# Altium integrated library Altera FLEX 10K.IntLib: 292 symbols (part 23 of 37)
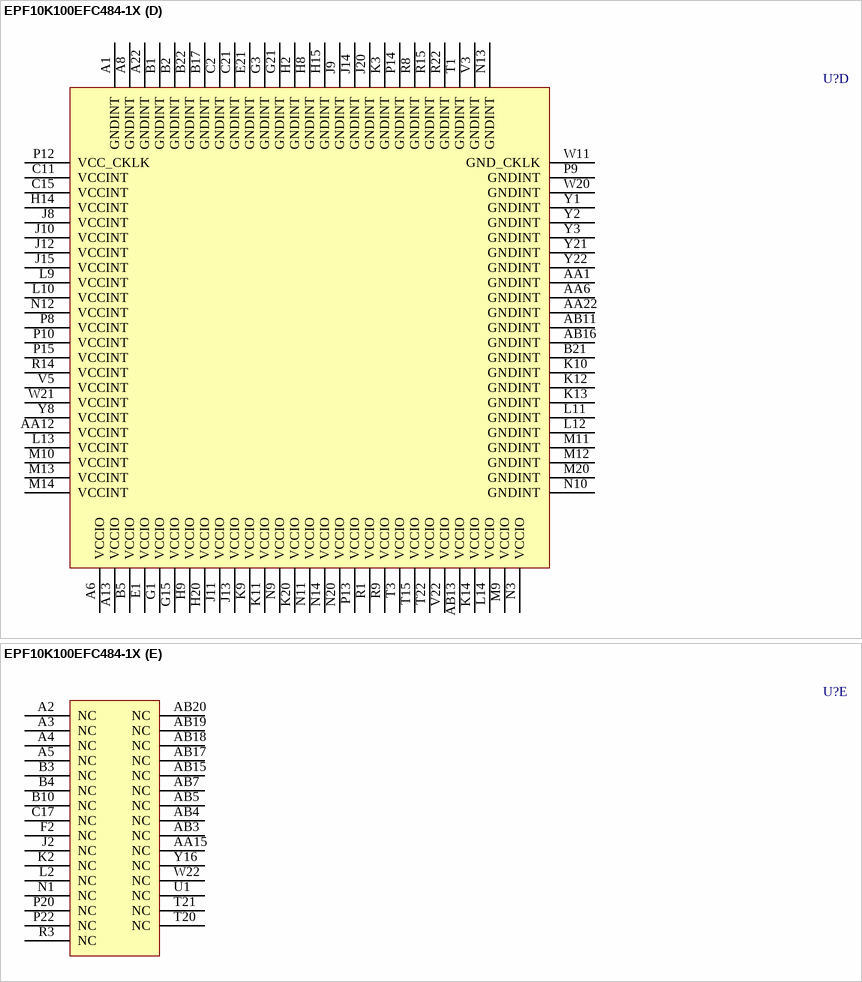
[diagram p420: symbol EPF10K100EFC484-1X]

## EPF10K100EFC484-1X
designator U?
FLEX EPF10K100E 2.5V Embedded PLD, 338 User IO Pins, 484-Pin FBGA, Speed Grade 1, Commercial Grade; Published: 17-Jul-2002; LatestRevisionDate: 13-Apr-2006; LatestRevisionNote: IPC-7351 Footprint Added.; DatasheetVersion: ver2.5, Jan-2003; PackageVersion: ver16.0, Dec-2009; PackageReference: FBGA484; Publisher: Altium Limited; PackageDescription: 484-Ball FineLine Ball Grid Array (FBGA484) - Flip Chip; Code_JEDEC: MS-034-AAJ-1; Code_IPC: BGA100P22X22-484; ComponentLink1Description: Manufacturer Link; ComponentLink1URL: http://www.altera.com/products/devices/flex10k/f10-index.html; ComponentLink2Description: Datasheet; ComponentLink2URL: http://www.altera.com/literature/ds/dsf10ke.pdf
footprint FBGA484 (BGA, 484-Leads, Body 23x23mm, Pitch 1mm)
3D model EPF10K100E-FBGA484 (484-Ball FineLine Ball Grid Array (FBGA484) - Flip Chip)
part A pins: A7 I/O (io), A9 I/O (io), A10 I/O (io), A11 I/O (io), A12 I/O (io), A14 I/O (io), A15 I/O (io), A16 I/O (io), A17 I/O (io), A18 I/O (io), A19 I/O (io), A20 I/O (io), A21 I/O (io), B6 I/O (io), B7 I/O (io), B8 I/O (io), B9 I/O (io), B11 I/O (io), B12 I/O (io), B13 I/O (io), B14 I/O (io), B15 I/O (io), B16 I/O (io), B18 I/O (io), B19 I/O (io), B20 I/O (io), C1 I/O (io), C3 I/O (io), C4 I/O (io), C5 I/O (io), C6 I/O (io), C7 I/O (io), C8 I/O (io), C9 I/O (io), C10 I/O (io), C12 I/O (io), C13 I/O (io), C14 I/O (io), C16 I/O (io), C18 I/O (io), C19 I/O (io), C20 I/O (io), C22 I/O (io), D1 I/O (io), D2 I/O (io), D3 I/O (io), D6 I/O (io), D8 I/O (io), D9 I/O (io), D10 I/O (io), D11 I/O (io), D13 I/O (io), D14 I/O (io), D15 I/O (io), D16 I/O (io), D17 I/O (io), D20 I/O (io), D21 I/O (io), D22 I/O (io), E2 I/O (io), E3 I/O (io), E9 I/O (io), E10 I/O (io), E11 I/O (io), E13 I/O (io), E14 I/O (io), E15 I/O (io), E16 I/O (io), E20 I/O (io), E22 I/O (io), F1 I/O (io), F3 I/O (io), F4 I/O (io), F7 I/O (io), F8 I/O (io), F9 I/O (io), F10 I/O (io), F11 I/O (io), F13 I/O (io), F14 I/O (io), F15 I/O (io), F16 I/O (io), F20 I/O (io), F21 I/O (io), F22 I/O (io), G2 I/O (io), G4 I/O (io), G5 I/O (io), G6 I/O (io), G8 I/O (io), G9 I/O (io), G10 I/O (io), G12 I/O (io), G13 I/O (io), G14 I/O (io), G16 I/O (io), G17 I/O (io), G19 I/O (io), G20 I/O (io), G22 I/O (io), H1 I/O (io), H3 I/O (io), H4 I/O (io), H5 I/O (io), H6 I/O (io), H7 I/O (io), H10 I/O (io), H12 I/O (io), H13 I/O (io), H16 I/O (io), H17 I/O (io), H18 I/O (io), H19 I/O (io), H21 I/O (io), H22 I/O (io), J1 I/O (io), J3 I/O (io), J4 I/O (io), J5 I/O (io), J6 I/O (io), J7 I/O (io), J16 I/O (io), J17 I/O (io), J18 I/O (io), J19 I/O (io), J21 I/O (io), J22 I/O (io), K1 I/O (io), K4 I/O (io), K5 I/O (io), K6 I/O (io), K7 I/O (io), K8 I/O (io), K15 I/O (io), K16 I/O (io), K18 I/O (io), K21 I/O (io), K22 I/O (io), L1 I/O (io), L3 I/O (io), L4 I/O (io), L5 I/O (io), L6 I/O (io), L7 I/O (io), L8 I/O (io), L15 I/O (io), L16 I/O (io), L17 I/O (io), L18 I/O (io), L19 I/O (io), L20 I/O (io), L21 I/O (io), L22 I/O (io), M1 I/O (io), M2 I/O (io), M3 I/O (io), M4 I/O (io), M5 I/O (io), M6 I/O (io), M7 I/O (io)
part B pins: AA2 I/O (io), AA3 I/O (io), AA4 I/O (io), AA5 I/O (io), AA7 I/O (io), AA8 I/O (io), AA9 I/O (io), AA10 I/O (io), AA11 I/O (io), AA13 I/O (io), AA14 I/O (io), AA16 I/O (io), AA17 I/O (io), AA18 I/O (io), AA19 I/O (io), AA20 I/O (io), AA21 I/O (io), AB1 I/O (io), AB2 I/O (io), AB6 I/O (io), AB8 I/O (io), AB9 I/O (io), AB10 I/O (io), AB12 I/O (io), AB14 I/O (io), AB21 I/O (io), AB22 I/O (io), M8 I/O (io), M15 I/O (io), M16 I/O (io), M17 I/O (io), M18 I/O (io), M19 I/O (io), M21 I/O (io), M22 I/O (io), N2 I/O (io), N4 I/O (io), N5 I/O (io), N6 I/O (io), N7 I/O (io), N8 I/O (io), N15 I/O (io), N16 I/O (io), N17 I/O (io), N18 I/O (io), N19 I/O (io), N21 I/O (io), N22 I/O (io), P1 I/O (io), P2 I/O (io), P3 I/O (io), P4 I/O (io), P5 I/O (io), P6 I/O (io), P7 I/O (io), P16 I/O (io), P17 I/O (io), P18 I/O (io), P19 I/O (io), P21 I/O (io), R2 I/O (io), R4 I/O (io), R5 I/O (io), R6 I/O (io), R7 I/O (io), R10 I/O (io), R11 I/O (io), R13 I/O (io), R16 I/O (io), R17 I/O (io), R18 I/O (io), R19 I/O (io), R20 I/O (io), R21 I/O (io), T2 I/O (io), T4 I/O (io), T5 I/O (io), T6 I/O (io), T8 I/O (io), T9 I/O (io), T10 I/O (io), T11 I/O (io), T12 I/O (io), T13 I/O (io), T14 I/O (io), T16 I/O (io), T17 I/O (io), T18 I/O (io), T19 I/O (io), U2 I/O (io), U3 I/O (io), U5 I/O (io), U6 I/O (io), U7 I/O (io), U8 I/O (io), U9 I/O (io), U10 I/O (io), U11 I/O (io), U12 I/O (io), U13 I/O (io), U14 I/O (io), U15 LOCK (io), U16 I/O (io), U17 I/O (io), U19 I/O (io), U20 I/O (io), U21 I/O (io), U22 I/O (io), V1 I/O (io), V2 I/O (io), V6 I/O (io), V7 I/O (io), V8 I/O (io), V9 I/O (io), V10 I/O (io), V12 I/O (io), V13 I/O (io), V14 I/O (io), V15 I/O (io), V16 I/O (io), V17 I/O (io), V18 I/O (io), V20 I/O (io), V21 I/O (io), W1 I/O (io), W2 I/O (io), W3 I/O (io), W4 I/O (io), W5 I/O (io), W6 I/O (io), W7 I/O (io), W8 I/O (io), W9 I/O (io), W10 I/O (io), W12 I/O (io), W13 I/O (io), W14 I/O (io), W15 I/O (io), W16 I/O (io), W17 I/O (io), W18 I/O (io), Y4 I/O (io), Y5 I/O (io), Y6 I/O (io), Y7 I/O (io), Y9 I/O (io), Y10 I/O (io), Y11 I/O (io), Y12 I/O (io), Y13 I/O (io), Y14 I/O (io), Y15 I/O (io), Y17 I/O (io), Y18 I/O (io), Y19 I/O (io), Y20 I/O (io)
part C pins: D4 DATA0 (in), D5 DATA2 (io), D7 DATA5 (io), D12 CLK (in), D18 CS (io), D19 nCS (io), E4 nCE (in), E5 DCLK (in), E6 DATA1 (io), E7 DATA4 (io), E8 DATA7 (io), E12 INPUT (in), E17 nWS (io), E18 TCK (in), E19 nCEO (out), F5 TDI (in), F6 DATA3 (io), F12 DEV_OE (io), F17 nRS (io), F18 CONF_DONE (in), F19 TDO (out), G7 DATA6 (io), G11 DEV_CLRn (io), G18 CLKUSR (io), H11 INPUT (in), K17 RDYnBSY (io), K19 INIT_DONE (io), P11 CLK/GCLK1 (in), R12 INPUT (in), T7 nCONFIG (in), U4 MSEL0 (in), U18 TMS (in), V4 MSEL1 (in), V11 INPUT (in), V19 TRST (in), W19 nSTATUS (in)
part D pins: A1 GNDINT (power), A6 VCCIO (power), A8 GNDINT (power), A13 VCCIO (power), A22 GNDINT (power), AA1 GNDINT (power), AA6 GNDINT (power), AA12 VCCINT (power), AA22 GNDINT (power), AB11 GNDINT (power), AB13 VCCIO (power), AB16 GNDINT (power), B1 GNDINT (power), B2 GNDINT (power), B5 VCCIO (power), B17 GNDINT (power), B21 GNDINT (power), B22 GNDINT (power), C2 GNDINT (power), C11 VCCINT (power), C15 VCCINT (power), C21 GNDINT (power), E1 VCCIO (power), E21 GNDINT (power), G1 VCCIO (power), G3 GNDINT (power), G15 VCCIO (power), G21 GNDINT (power), H2 GNDINT (power), H8 GNDINT (power), H9 VCCIO (power), H14 VCCINT (power), H15 GNDINT (power), H20 VCCIO (power), J8 VCCINT (power), J9 GNDINT (power), J10 VCCINT (power), J11 VCCIO (power), J12 VCCINT (power), J13 VCCIO (power), J14 GNDINT (power), J15 VCCINT (power), J20 GNDINT (power), K3 GNDINT (power), K9 VCCIO (power), K10 GNDINT (power), K11 VCCIO (power), K12 GNDINT (power), K13 GNDINT (power), K14 VCCIO (power), K20 VCCIO (power), L9 VCCINT (power), L10 VCCINT (power), L11 GNDINT (power), L12 GNDINT (power), L13 VCCINT (power), L14 VCCIO (power), M9 VCCIO (power), M10 VCCINT (power), M11 GNDINT (power), M12 GNDINT (power), M13 VCCINT (power), M14 VCCINT (power), M20 GNDINT (power), N3 VCCIO (power), N9 VCCIO (power), N10 GNDINT (power), N11 VCCIO (power), N12 VCCINT (power), N13 GNDINT (power), N14 VCCIO (power), N20 VCCIO (power), P8 VCCINT (power), P9 GNDINT (power), P10 VCCINT (power), P12 VCC_CKLK (power), P13 VCCIO (power), P14 GNDINT (power), P15 VCCINT (power), R1 VCCIO (power), R8 GNDINT (power), R9 VCCIO (power), R14 VCCINT (power), R15 GNDINT (power), R22 GNDINT (power), T1 GNDINT (power), T3 VCCIO (power), T15 VCCIO (power), T22 VCCIO (power), V3 GNDINT (power), V5 VCCINT (power), V22 VCCIO (power), W11 GND_CKLK (power), W20 GNDINT (power), W21 VCCINT (power), Y1 GNDINT (power), Y2 GNDINT (power), Y3 GNDINT (power), Y8 VCCINT (power), Y21 GNDINT (power), Y22 GNDINT (power)
part E pins: A2 NC, A3 NC, A4 NC, A5 NC, AA15 NC, AB3 NC, AB4 NC, AB5 NC, AB7 NC, AB15 NC, AB17 NC, AB18 NC, AB19 NC, AB20 NC, B3 NC, B4 NC, B10 NC, C17 NC, F2 NC, J2 NC, K2 NC, L2 NC, N1 NC, P20 NC, P22 NC, R3 NC, T20 NC, T21 NC, U1 NC, W22 NC, Y16 NC

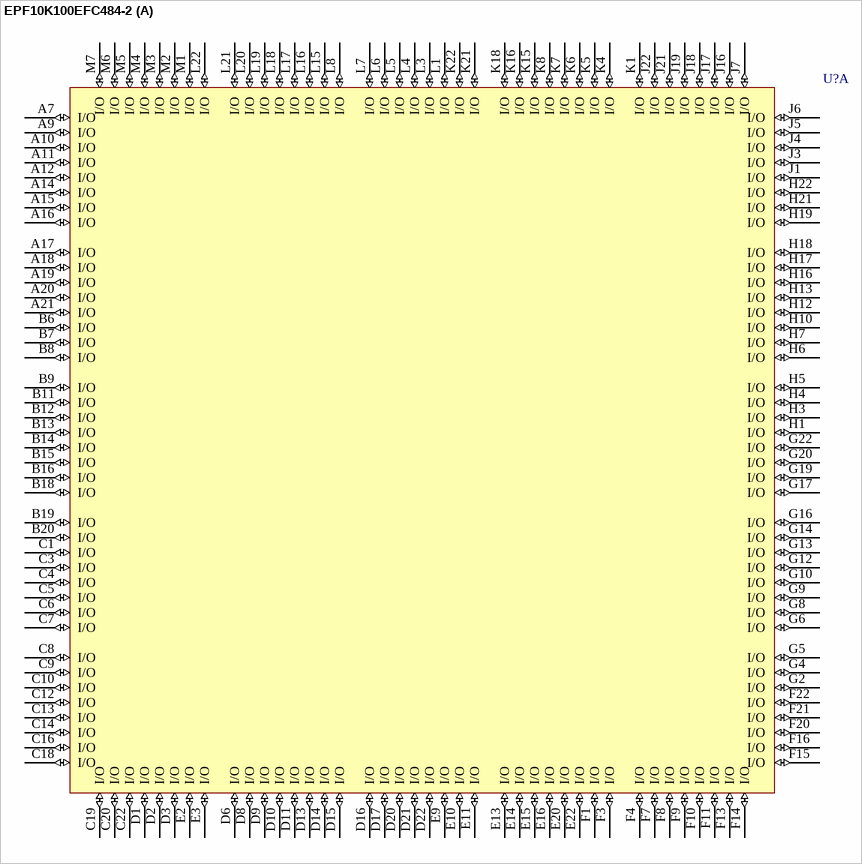
[diagram p229: symbol EPF10K100EFC484-2]

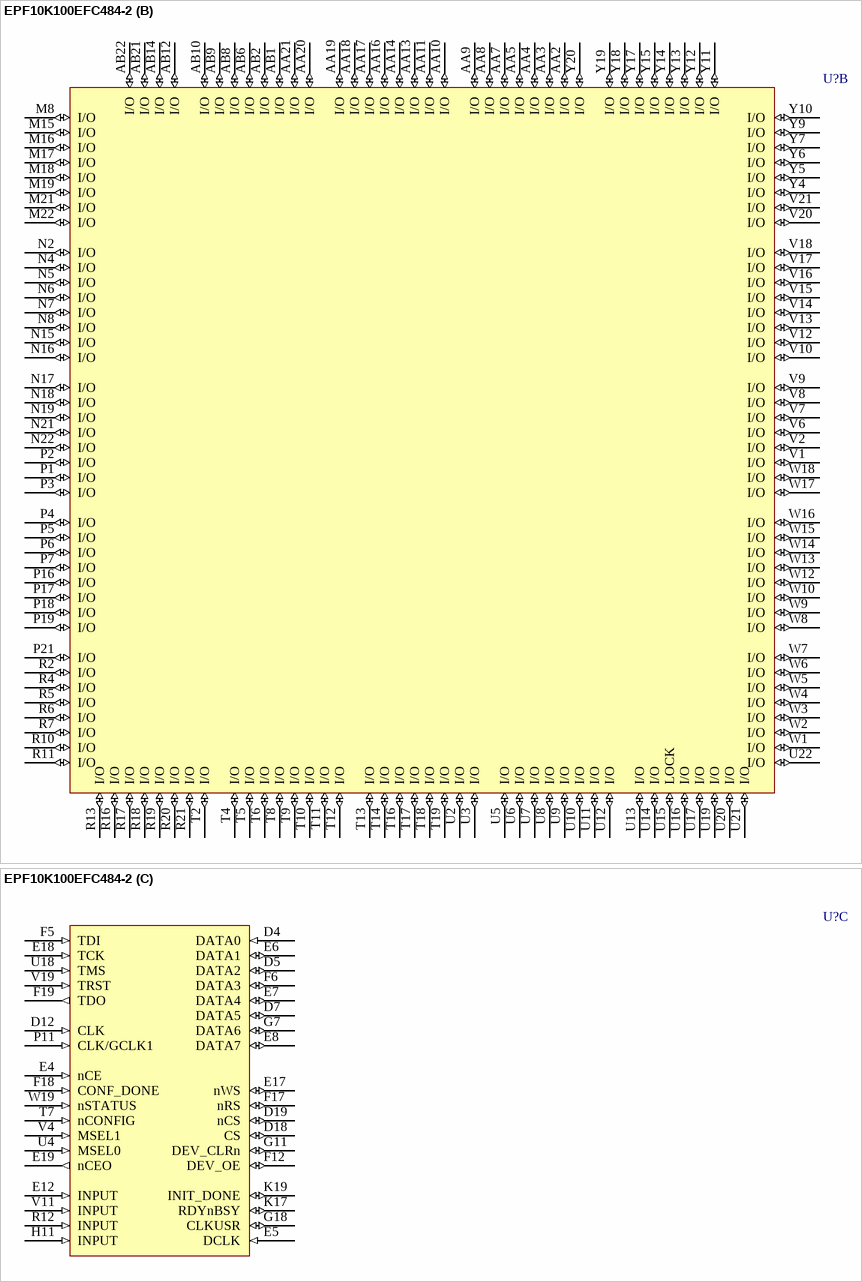
[diagram p230: symbol EPF10K100EFC484-2]

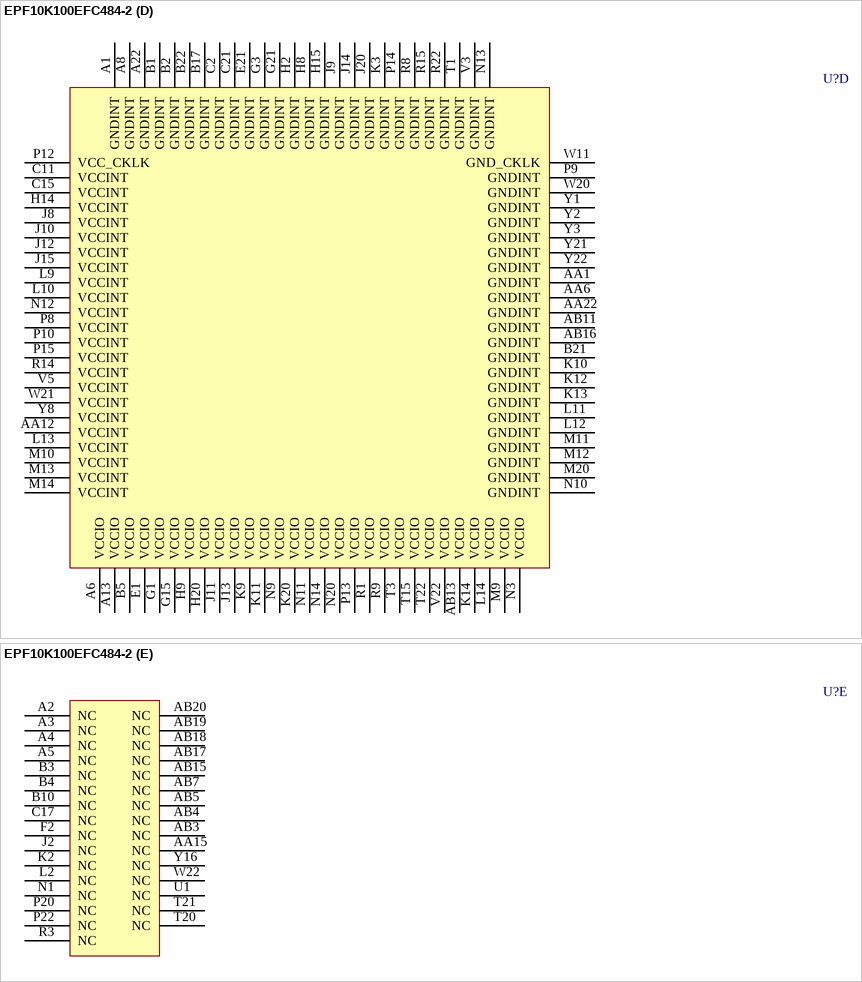
[diagram p231: symbol EPF10K100EFC484-2]

## EPF10K100EFC484-2
designator U?
FLEX EPF10K100E 2.5V Embedded PLD, 338 User IO Pins, 484-Pin FBGA, Speed Grade 2, Commercial Grade; Published: 17-Jul-2002; LatestRevisionDate: 13-Apr-2006; LatestRevisionNote: IPC-7351 Footprint Added.; DatasheetVersion: ver2.5, Jan-2003; PackageVersion: ver16.0, Dec-2009; PackageReference: FBGA484; Publisher: Altium Limited; PackageDescription: 484-Ball FineLine Ball Grid Array (FBGA484) - Flip Chip; Code_JEDEC: MS-034-AAJ-1; Code_IPC: BGA100P22X22-484; ComponentLink1Description: Manufacturer Link; ComponentLink1URL: http://www.altera.com/products/devices/flex10k/f10-index.html; ComponentLink2Description: Datasheet; ComponentLink2URL: http://www.altera.com/literature/ds/dsf10ke.pdf
footprint FBGA484 (BGA, 484-Leads, Body 23x23mm, Pitch 1mm)
3D model EPF10K100E-FBGA484 (484-Ball FineLine Ball Grid Array (FBGA484) - Flip Chip)
part A pins: A7 I/O (io), A9 I/O (io), A10 I/O (io), A11 I/O (io), A12 I/O (io), A14 I/O (io), A15 I/O (io), A16 I/O (io), A17 I/O (io), A18 I/O (io), A19 I/O (io), A20 I/O (io), A21 I/O (io), B6 I/O (io), B7 I/O (io), B8 I/O (io), B9 I/O (io), B11 I/O (io), B12 I/O (io), B13 I/O (io), B14 I/O (io), B15 I/O (io), B16 I/O (io), B18 I/O (io), B19 I/O (io), B20 I/O (io), C1 I/O (io), C3 I/O (io), C4 I/O (io), C5 I/O (io), C6 I/O (io), C7 I/O (io), C8 I/O (io), C9 I/O (io), C10 I/O (io), C12 I/O (io), C13 I/O (io), C14 I/O (io), C16 I/O (io), C18 I/O (io), C19 I/O (io), C20 I/O (io), C22 I/O (io), D1 I/O (io), D2 I/O (io), D3 I/O (io), D6 I/O (io), D8 I/O (io), D9 I/O (io), D10 I/O (io), D11 I/O (io), D13 I/O (io), D14 I/O (io), D15 I/O (io), D16 I/O (io), D17 I/O (io), D20 I/O (io), D21 I/O (io), D22 I/O (io), E2 I/O (io), E3 I/O (io), E9 I/O (io), E10 I/O (io), E11 I/O (io), E13 I/O (io), E14 I/O (io), E15 I/O (io), E16 I/O (io), E20 I/O (io), E22 I/O (io), F1 I/O (io), F3 I/O (io), F4 I/O (io), F7 I/O (io), F8 I/O (io), F9 I/O (io), F10 I/O (io), F11 I/O (io), F13 I/O (io), F14 I/O (io), F15 I/O (io), F16 I/O (io), F20 I/O (io), F21 I/O (io), F22 I/O (io), G2 I/O (io), G4 I/O (io), G5 I/O (io), G6 I/O (io), G8 I/O (io), G9 I/O (io), G10 I/O (io), G12 I/O (io), G13 I/O (io), G14 I/O (io), G16 I/O (io), G17 I/O (io), G19 I/O (io), G20 I/O (io), G22 I/O (io), H1 I/O (io), H3 I/O (io), H4 I/O (io), H5 I/O (io), H6 I/O (io), H7 I/O (io), H10 I/O (io), H12 I/O (io), H13 I/O (io), H16 I/O (io), H17 I/O (io), H18 I/O (io), H19 I/O (io), H21 I/O (io), H22 I/O (io), J1 I/O (io), J3 I/O (io), J4 I/O (io), J5 I/O (io), J6 I/O (io), J7 I/O (io), J16 I/O (io), J17 I/O (io), J18 I/O (io), J19 I/O (io), J21 I/O (io), J22 I/O (io), K1 I/O (io), K4 I/O (io), K5 I/O (io), K6 I/O (io), K7 I/O (io), K8 I/O (io), K15 I/O (io), K16 I/O (io), K18 I/O (io), K21 I/O (io), K22 I/O (io), L1 I/O (io), L3 I/O (io), L4 I/O (io), L5 I/O (io), L6 I/O (io), L7 I/O (io), L8 I/O (io), L15 I/O (io), L16 I/O (io), L17 I/O (io), L18 I/O (io), L19 I/O (io), L20 I/O (io), L21 I/O (io), L22 I/O (io), M1 I/O (io), M2 I/O (io), M3 I/O (io), M4 I/O (io), M5 I/O (io), M6 I/O (io), M7 I/O (io)
part B pins: AA2 I/O (io), AA3 I/O (io), AA4 I/O (io), AA5 I/O (io), AA7 I/O (io), AA8 I/O (io), AA9 I/O (io), AA10 I/O (io), AA11 I/O (io), AA13 I/O (io), AA14 I/O (io), AA16 I/O (io), AA17 I/O (io), AA18 I/O (io), AA19 I/O (io), AA20 I/O (io), AA21 I/O (io), AB1 I/O (io), AB2 I/O (io), AB6 I/O (io), AB8 I/O (io), AB9 I/O (io), AB10 I/O (io), AB12 I/O (io), AB14 I/O (io), AB21 I/O (io), AB22 I/O (io), M8 I/O (io), M15 I/O (io), M16 I/O (io), M17 I/O (io), M18 I/O (io), M19 I/O (io), M21 I/O (io), M22 I/O (io), N2 I/O (io), N4 I/O (io), N5 I/O (io), N6 I/O (io), N7 I/O (io), N8 I/O (io), N15 I/O (io), N16 I/O (io), N17 I/O (io), N18 I/O (io), N19 I/O (io), N21 I/O (io), N22 I/O (io), P1 I/O (io), P2 I/O (io), P3 I/O (io), P4 I/O (io), P5 I/O (io), P6 I/O (io), P7 I/O (io), P16 I/O (io), P17 I/O (io), P18 I/O (io), P19 I/O (io), P21 I/O (io), R2 I/O (io), R4 I/O (io), R5 I/O (io), R6 I/O (io), R7 I/O (io), R10 I/O (io), R11 I/O (io), R13 I/O (io), R16 I/O (io), R17 I/O (io), R18 I/O (io), R19 I/O (io), R20 I/O (io), R21 I/O (io), T2 I/O (io), T4 I/O (io), T5 I/O (io), T6 I/O (io), T8 I/O (io), T9 I/O (io), T10 I/O (io), T11 I/O (io), T12 I/O (io), T13 I/O (io), T14 I/O (io), T16 I/O (io), T17 I/O (io), T18 I/O (io), T19 I/O (io), U2 I/O (io), U3 I/O (io), U5 I/O (io), U6 I/O (io), U7 I/O (io), U8 I/O (io), U9 I/O (io), U10 I/O (io), U11 I/O (io), U12 I/O (io), U13 I/O (io), U14 I/O (io), U15 LOCK (io), U16 I/O (io), U17 I/O (io), U19 I/O (io), U20 I/O (io), U21 I/O (io), U22 I/O (io), V1 I/O (io), V2 I/O (io), V6 I/O (io), V7 I/O (io), V8 I/O (io), V9 I/O (io), V10 I/O (io), V12 I/O (io), V13 I/O (io), V14 I/O (io), V15 I/O (io), V16 I/O (io), V17 I/O (io), V18 I/O (io), V20 I/O (io), V21 I/O (io), W1 I/O (io), W2 I/O (io), W3 I/O (io), W4 I/O (io), W5 I/O (io), W6 I/O (io), W7 I/O (io), W8 I/O (io), W9 I/O (io), W10 I/O (io), W12 I/O (io), W13 I/O (io), W14 I/O (io), W15 I/O (io), W16 I/O (io), W17 I/O (io), W18 I/O (io), Y4 I/O (io), Y5 I/O (io), Y6 I/O (io), Y7 I/O (io), Y9 I/O (io), Y10 I/O (io), Y11 I/O (io), Y12 I/O (io), Y13 I/O (io), Y14 I/O (io), Y15 I/O (io), Y17 I/O (io), Y18 I/O (io), Y19 I/O (io), Y20 I/O (io)
part C pins: D4 DATA0 (in), D5 DATA2 (io), D7 DATA5 (io), D12 CLK (in), D18 CS (io), D19 nCS (io), E4 nCE (in), E5 DCLK (in), E6 DATA1 (io), E7 DATA4 (io), E8 DATA7 (io), E12 INPUT (in), E17 nWS (io), E18 TCK (in), E19 nCEO (out), F5 TDI (in), F6 DATA3 (io), F12 DEV_OE (io), F17 nRS (io), F18 CONF_DONE (in), F19 TDO (out), G7 DATA6 (io), G11 DEV_CLRn (io), G18 CLKUSR (io), H11 INPUT (in), K17 RDYnBSY (io), K19 INIT_DONE (io), P11 CLK/GCLK1 (in), R12 INPUT (in), T7 nCONFIG (in), U4 MSEL0 (in), U18 TMS (in), V4 MSEL1 (in), V11 INPUT (in), V19 TRST (in), W19 nSTATUS (in)
part D pins: A1 GNDINT (power), A6 VCCIO (power), A8 GNDINT (power), A13 VCCIO (power), A22 GNDINT (power), AA1 GNDINT (power), AA6 GNDINT (power), AA12 VCCINT (power), AA22 GNDINT (power), AB11 GNDINT (power), AB13 VCCIO (power), AB16 GNDINT (power), B1 GNDINT (power), B2 GNDINT (power), B5 VCCIO (power), B17 GNDINT (power), B21 GNDINT (power), B22 GNDINT (power), C2 GNDINT (power), C11 VCCINT (power), C15 VCCINT (power), C21 GNDINT (power), E1 VCCIO (power), E21 GNDINT (power), G1 VCCIO (power), G3 GNDINT (power), G15 VCCIO (power), G21 GNDINT (power), H2 GNDINT (power), H8 GNDINT (power), H9 VCCIO (power), H14 VCCINT (power), H15 GNDINT (power), H20 VCCIO (power), J8 VCCINT (power), J9 GNDINT (power), J10 VCCINT (power), J11 VCCIO (power), J12 VCCINT (power), J13 VCCIO (power), J14 GNDINT (power), J15 VCCINT (power), J20 GNDINT (power), K3 GNDINT (power), K9 VCCIO (power), K10 GNDINT (power), K11 VCCIO (power), K12 GNDINT (power), K13 GNDINT (power), K14 VCCIO (power), K20 VCCIO (power), L9 VCCINT (power), L10 VCCINT (power), L11 GNDINT (power), L12 GNDINT (power), L13 VCCINT (power), L14 VCCIO (power), M9 VCCIO (power), M10 VCCINT (power), M11 GNDINT (power), M12 GNDINT (power), M13 VCCINT (power), M14 VCCINT (power), M20 GNDINT (power), N3 VCCIO (power), N9 VCCIO (power), N10 GNDINT (power), N11 VCCIO (power), N12 VCCINT (power), N13 GNDINT (power), N14 VCCIO (power), N20 VCCIO (power), P8 VCCINT (power), P9 GNDINT (power), P10 VCCINT (power), P12 VCC_CKLK (power), P13 VCCIO (power), P14 GNDINT (power), P15 VCCINT (power), R1 VCCIO (power), R8 GNDINT (power), R9 VCCIO (power), R14 VCCINT (power), R15 GNDINT (power), R22 GNDINT (power), T1 GNDINT (power), T3 VCCIO (power), T15 VCCIO (power), T22 VCCIO (power), V3 GNDINT (power), V5 VCCINT (power), V22 VCCIO (power), W11 GND_CKLK (power), W20 GNDINT (power), W21 VCCINT (power), Y1 GNDINT (power), Y2 GNDINT (power), Y3 GNDINT (power), Y8 VCCINT (power), Y21 GNDINT (power), Y22 GNDINT (power)
part E pins: A2 NC, A3 NC, A4 NC, A5 NC, AA15 NC, AB3 NC, AB4 NC, AB5 NC, AB7 NC, AB15 NC, AB17 NC, AB18 NC, AB19 NC, AB20 NC, B3 NC, B4 NC, B10 NC, C17 NC, F2 NC, J2 NC, K2 NC, L2 NC, N1 NC, P20 NC, P22 NC, R3 NC, T20 NC, T21 NC, U1 NC, W22 NC, Y16 NC

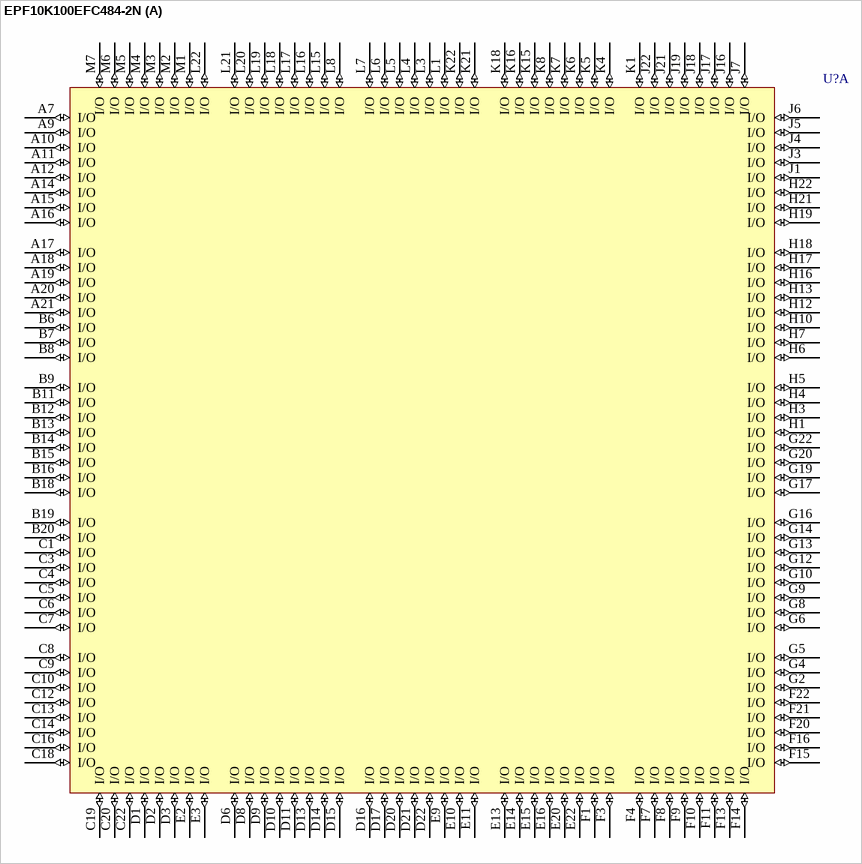
[diagram p232: symbol EPF10K100EFC484-2N]

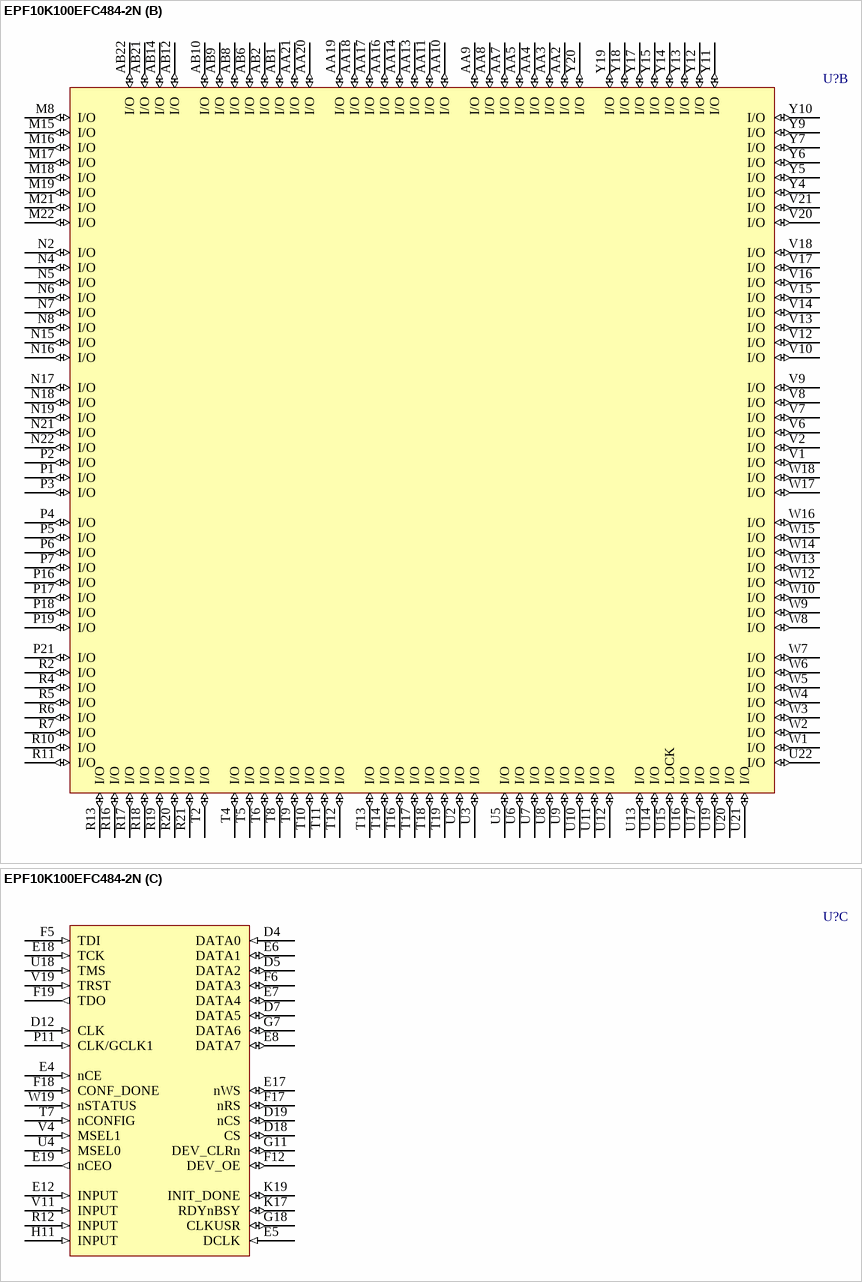
[diagram p233: symbol EPF10K100EFC484-2N]

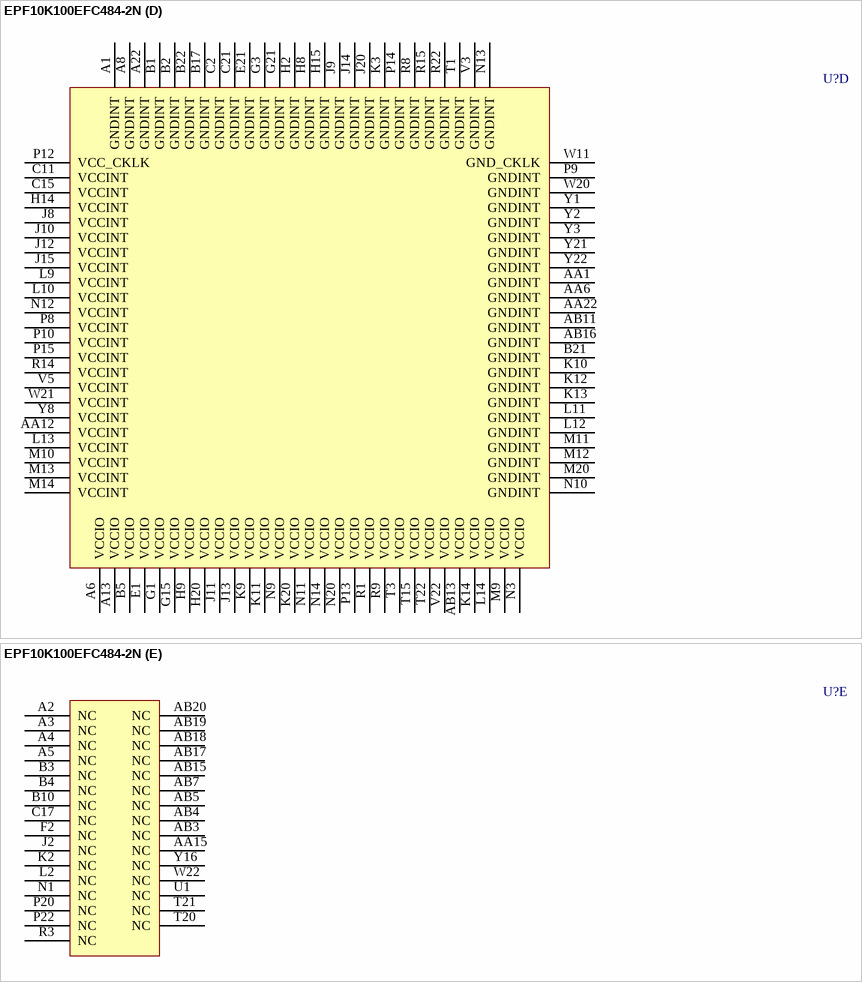
[diagram p234: symbol EPF10K100EFC484-2N]

## EPF10K100EFC484-2N
designator U?
FLEX EPF10K100E 2.5V Embedded PLD, 338 User IO Pins, 484-Pin FBGA, Speed Grade 2, Commercial Grade, Pb-Free; Published: 4-Mar-2005; LatestRevisionDate: 13-Apr-2006; LatestRevisionNote: IPC-7351 Footprint Added.; DatasheetVersion: Jan-2001; PackageVersion: ver16.0, Dec-2009; PackageReference: FBGA484; Publisher: Altium Limited; PackageDescription: 484-Ball FineLine Ball Grid Array (FBGA484) - Flip Chip; Code_JEDEC: MS-034-AAJ-1; Code_IPC: BGA100P22X22-484; ComponentLink1Description: Manufacturer Link; ComponentLink1URL: http://www.altera.com/products/devices/flex10k/f10-index.html; ComponentLink2Description: Datasheet; ComponentLink2URL: http://www.altera.com/literature/ds/dsf10ke.pdf
footprint FBGA484 (BGA, 484-Leads, Body 23x23mm, Pitch 1mm)
3D model EPF10K100E-FBGA484 (484-Ball FineLine Ball Grid Array (FBGA484) - Flip Chip)
part A pins: A7 I/O (io), A9 I/O (io), A10 I/O (io), A11 I/O (io), A12 I/O (io), A14 I/O (io), A15 I/O (io), A16 I/O (io), A17 I/O (io), A18 I/O (io), A19 I/O (io), A20 I/O (io), A21 I/O (io), B6 I/O (io), B7 I/O (io), B8 I/O (io), B9 I/O (io), B11 I/O (io), B12 I/O (io), B13 I/O (io), B14 I/O (io), B15 I/O (io), B16 I/O (io), B18 I/O (io), B19 I/O (io), B20 I/O (io), C1 I/O (io), C3 I/O (io), C4 I/O (io), C5 I/O (io), C6 I/O (io), C7 I/O (io), C8 I/O (io), C9 I/O (io), C10 I/O (io), C12 I/O (io), C13 I/O (io), C14 I/O (io), C16 I/O (io), C18 I/O (io), C19 I/O (io), C20 I/O (io), C22 I/O (io), D1 I/O (io), D2 I/O (io), D3 I/O (io), D6 I/O (io), D8 I/O (io), D9 I/O (io), D10 I/O (io), D11 I/O (io), D13 I/O (io), D14 I/O (io), D15 I/O (io), D16 I/O (io), D17 I/O (io), D20 I/O (io), D21 I/O (io), D22 I/O (io), E2 I/O (io), E3 I/O (io), E9 I/O (io), E10 I/O (io), E11 I/O (io), E13 I/O (io), E14 I/O (io), E15 I/O (io), E16 I/O (io), E20 I/O (io), E22 I/O (io), F1 I/O (io), F3 I/O (io), F4 I/O (io), F7 I/O (io), F8 I/O (io), F9 I/O (io), F10 I/O (io), F11 I/O (io), F13 I/O (io), F14 I/O (io), F15 I/O (io), F16 I/O (io), F20 I/O (io), F21 I/O (io), F22 I/O (io), G2 I/O (io), G4 I/O (io), G5 I/O (io), G6 I/O (io), G8 I/O (io), G9 I/O (io), G10 I/O (io), G12 I/O (io), G13 I/O (io), G14 I/O (io), G16 I/O (io), G17 I/O (io), G19 I/O (io), G20 I/O (io), G22 I/O (io), H1 I/O (io), H3 I/O (io), H4 I/O (io), H5 I/O (io), H6 I/O (io), H7 I/O (io), H10 I/O (io), H12 I/O (io), H13 I/O (io), H16 I/O (io), H17 I/O (io), H18 I/O (io), H19 I/O (io), H21 I/O (io), H22 I/O (io), J1 I/O (io), J3 I/O (io), J4 I/O (io), J5 I/O (io), J6 I/O (io), J7 I/O (io), J16 I/O (io), J17 I/O (io), J18 I/O (io), J19 I/O (io), J21 I/O (io), J22 I/O (io), K1 I/O (io), K4 I/O (io), K5 I/O (io), K6 I/O (io), K7 I/O (io), K8 I/O (io), K15 I/O (io), K16 I/O (io), K18 I/O (io), K21 I/O (io), K22 I/O (io), L1 I/O (io), L3 I/O (io), L4 I/O (io), L5 I/O (io), L6 I/O (io), L7 I/O (io), L8 I/O (io), L15 I/O (io), L16 I/O (io), L17 I/O (io), L18 I/O (io), L19 I/O (io), L20 I/O (io), L21 I/O (io), L22 I/O (io), M1 I/O (io), M2 I/O (io), M3 I/O (io), M4 I/O (io), M5 I/O (io), M6 I/O (io), M7 I/O (io)
part B pins: AA2 I/O (io), AA3 I/O (io), AA4 I/O (io), AA5 I/O (io), AA7 I/O (io), AA8 I/O (io), AA9 I/O (io), AA10 I/O (io), AA11 I/O (io), AA13 I/O (io), AA14 I/O (io), AA16 I/O (io), AA17 I/O (io), AA18 I/O (io), AA19 I/O (io), AA20 I/O (io), AA21 I/O (io), AB1 I/O (io), AB2 I/O (io), AB6 I/O (io), AB8 I/O (io), AB9 I/O (io), AB10 I/O (io), AB12 I/O (io), AB14 I/O (io), AB21 I/O (io), AB22 I/O (io), M8 I/O (io), M15 I/O (io), M16 I/O (io), M17 I/O (io), M18 I/O (io), M19 I/O (io), M21 I/O (io), M22 I/O (io), N2 I/O (io), N4 I/O (io), N5 I/O (io), N6 I/O (io), N7 I/O (io), N8 I/O (io), N15 I/O (io), N16 I/O (io), N17 I/O (io), N18 I/O (io), N19 I/O (io), N21 I/O (io), N22 I/O (io), P1 I/O (io), P2 I/O (io), P3 I/O (io), P4 I/O (io), P5 I/O (io), P6 I/O (io), P7 I/O (io), P16 I/O (io), P17 I/O (io), P18 I/O (io), P19 I/O (io), P21 I/O (io), R2 I/O (io), R4 I/O (io), R5 I/O (io), R6 I/O (io), R7 I/O (io), R10 I/O (io), R11 I/O (io), R13 I/O (io), R16 I/O (io), R17 I/O (io), R18 I/O (io), R19 I/O (io), R20 I/O (io), R21 I/O (io), T2 I/O (io), T4 I/O (io), T5 I/O (io), T6 I/O (io), T8 I/O (io), T9 I/O (io), T10 I/O (io), T11 I/O (io), T12 I/O (io), T13 I/O (io), T14 I/O (io), T16 I/O (io), T17 I/O (io), T18 I/O (io), T19 I/O (io), U2 I/O (io), U3 I/O (io), U5 I/O (io), U6 I/O (io), U7 I/O (io), U8 I/O (io), U9 I/O (io), U10 I/O (io), U11 I/O (io), U12 I/O (io), U13 I/O (io), U14 I/O (io), U15 LOCK (io), U16 I/O (io), U17 I/O (io), U19 I/O (io), U20 I/O (io), U21 I/O (io), U22 I/O (io), V1 I/O (io), V2 I/O (io), V6 I/O (io), V7 I/O (io), V8 I/O (io), V9 I/O (io), V10 I/O (io), V12 I/O (io), V13 I/O (io), V14 I/O (io), V15 I/O (io), V16 I/O (io), V17 I/O (io), V18 I/O (io), V20 I/O (io), V21 I/O (io), W1 I/O (io), W2 I/O (io), W3 I/O (io), W4 I/O (io), W5 I/O (io), W6 I/O (io), W7 I/O (io), W8 I/O (io), W9 I/O (io), W10 I/O (io), W12 I/O (io), W13 I/O (io), W14 I/O (io), W15 I/O (io), W16 I/O (io), W17 I/O (io), W18 I/O (io), Y4 I/O (io), Y5 I/O (io), Y6 I/O (io), Y7 I/O (io), Y9 I/O (io), Y10 I/O (io), Y11 I/O (io), Y12 I/O (io), Y13 I/O (io), Y14 I/O (io), Y15 I/O (io), Y17 I/O (io), Y18 I/O (io), Y19 I/O (io), Y20 I/O (io)
part C pins: D4 DATA0 (in), D5 DATA2 (io), D7 DATA5 (io), D12 CLK (in), D18 CS (io), D19 nCS (io), E4 nCE (in), E5 DCLK (in), E6 DATA1 (io), E7 DATA4 (io), E8 DATA7 (io), E12 INPUT (in), E17 nWS (io), E18 TCK (in), E19 nCEO (out), F5 TDI (in), F6 DATA3 (io), F12 DEV_OE (io), F17 nRS (io), F18 CONF_DONE (in), F19 TDO (out), G7 DATA6 (io), G11 DEV_CLRn (io), G18 CLKUSR (io), H11 INPUT (in), K17 RDYnBSY (io), K19 INIT_DONE (io), P11 CLK/GCLK1 (in), R12 INPUT (in), T7 nCONFIG (in), U4 MSEL0 (in), U18 TMS (in), V4 MSEL1 (in), V11 INPUT (in), V19 TRST (in), W19 nSTATUS (in)
part D pins: A1 GNDINT (power), A6 VCCIO (power), A8 GNDINT (power), A13 VCCIO (power), A22 GNDINT (power), AA1 GNDINT (power), AA6 GNDINT (power), AA12 VCCINT (power), AA22 GNDINT (power), AB11 GNDINT (power), AB13 VCCIO (power), AB16 GNDINT (power), B1 GNDINT (power), B2 GNDINT (power), B5 VCCIO (power), B17 GNDINT (power), B21 GNDINT (power), B22 GNDINT (power), C2 GNDINT (power), C11 VCCINT (power), C15 VCCINT (power), C21 GNDINT (power), E1 VCCIO (power), E21 GNDINT (power), G1 VCCIO (power), G3 GNDINT (power), G15 VCCIO (power), G21 GNDINT (power), H2 GNDINT (power), H8 GNDINT (power), H9 VCCIO (power), H14 VCCINT (power), H15 GNDINT (power), H20 VCCIO (power), J8 VCCINT (power), J9 GNDINT (power), J10 VCCINT (power), J11 VCCIO (power), J12 VCCINT (power), J13 VCCIO (power), J14 GNDINT (power), J15 VCCINT (power), J20 GNDINT (power), K3 GNDINT (power), K9 VCCIO (power), K10 GNDINT (power), K11 VCCIO (power), K12 GNDINT (power), K13 GNDINT (power), K14 VCCIO (power), K20 VCCIO (power), L9 VCCINT (power), L10 VCCINT (power), L11 GNDINT (power), L12 GNDINT (power), L13 VCCINT (power), L14 VCCIO (power), M9 VCCIO (power), M10 VCCINT (power), M11 GNDINT (power), M12 GNDINT (power), M13 VCCINT (power), M14 VCCINT (power), M20 GNDINT (power), N3 VCCIO (power), N9 VCCIO (power), N10 GNDINT (power), N11 VCCIO (power), N12 VCCINT (power), N13 GNDINT (power), N14 VCCIO (power), N20 VCCIO (power), P8 VCCINT (power), P9 GNDINT (power), P10 VCCINT (power), P12 VCC_CKLK (power), P13 VCCIO (power), P14 GNDINT (power), P15 VCCINT (power), R1 VCCIO (power), R8 GNDINT (power), R9 VCCIO (power), R14 VCCINT (power), R15 GNDINT (power), R22 GNDINT (power), T1 GNDINT (power), T3 VCCIO (power), T15 VCCIO (power), T22 VCCIO (power), V3 GNDINT (power), V5 VCCINT (power), V22 VCCIO (power), W11 GND_CKLK (power), W20 GNDINT (power), W21 VCCINT (power), Y1 GNDINT (power), Y2 GNDINT (power), Y3 GNDINT (power), Y8 VCCINT (power), Y21 GNDINT (power), Y22 GNDINT (power)
part E pins: A2 NC, A3 NC, A4 NC, A5 NC, AA15 NC, AB3 NC, AB4 NC, AB5 NC, AB7 NC, AB15 NC, AB17 NC, AB18 NC, AB19 NC, AB20 NC, B3 NC, B4 NC, B10 NC, C17 NC, F2 NC, J2 NC, K2 NC, L2 NC, N1 NC, P20 NC, P22 NC, R3 NC, T20 NC, T21 NC, U1 NC, W22 NC, Y16 NC

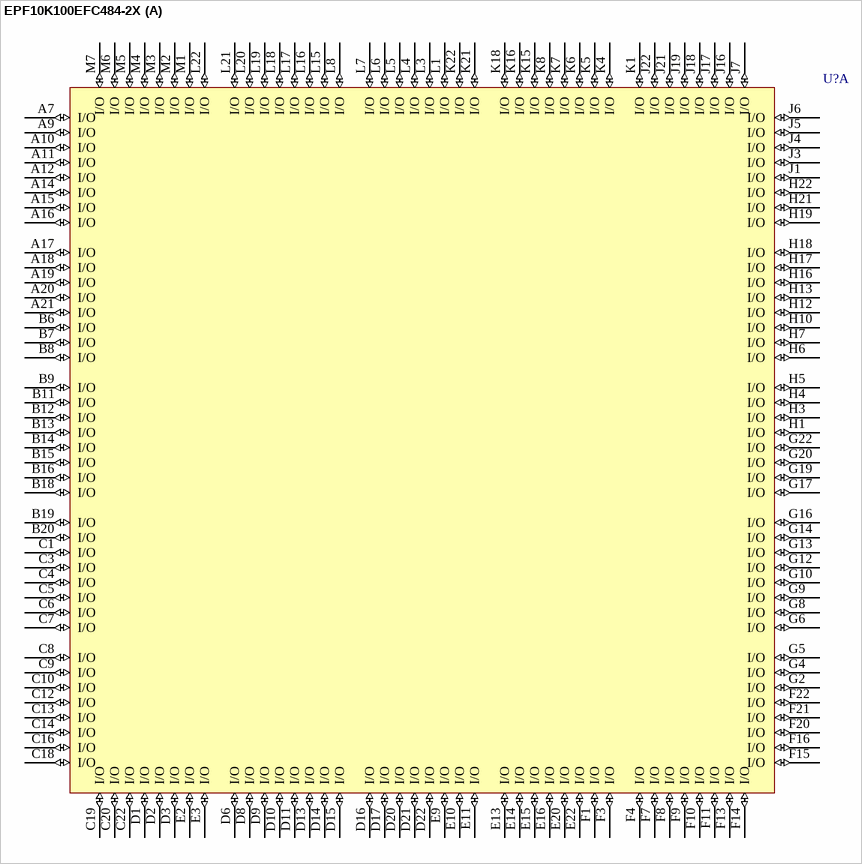
[diagram p235: symbol EPF10K100EFC484-2X]

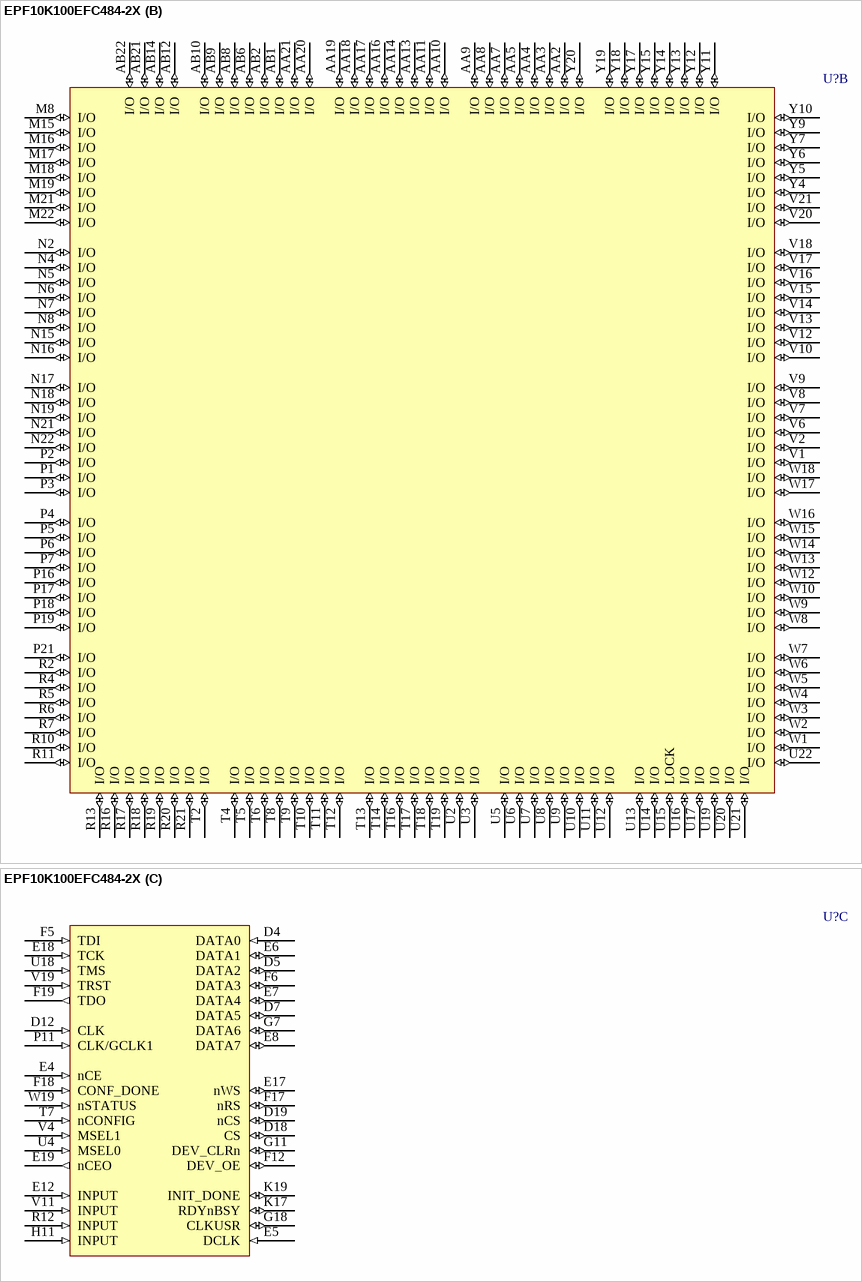
[diagram p236: symbol EPF10K100EFC484-2X]

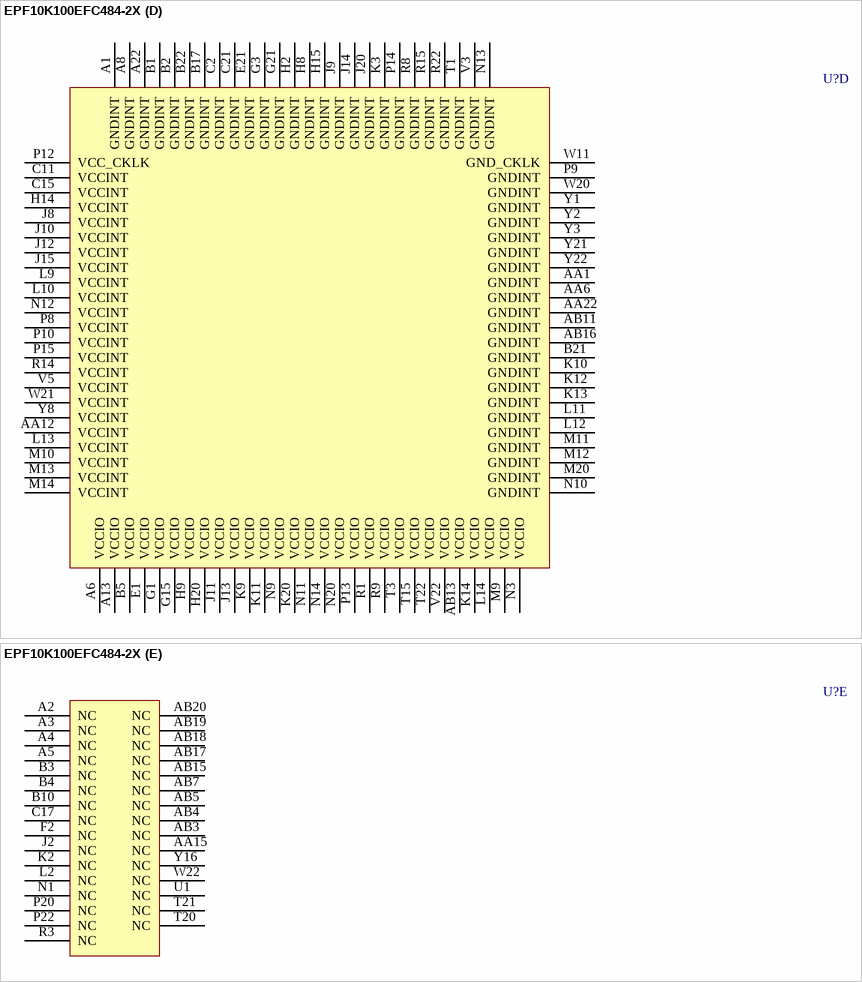
[diagram p237: symbol EPF10K100EFC484-2X]

## EPF10K100EFC484-2X
designator U?
FLEX EPF10K100E 2.5V Embedded PLD, 338 User IO Pins, 484-Pin FBGA, Speed Grade 2, Commercial Grade; Published: 17-Jul-2002; LatestRevisionDate: 13-Apr-2006; LatestRevisionNote: IPC-7351 Footprint Added.; DatasheetVersion: ver2.5, Jan-2003; PackageVersion: ver16.0, Dec-2009; PackageReference: FBGA484; Publisher: Altium Limited; PackageDescription: 484-Ball FineLine Ball Grid Array (FBGA484) - Flip Chip; Code_JEDEC: MS-034-AAJ-1; Code_IPC: BGA100P22X22-484; ComponentLink1Description: Manufacturer Link; ComponentLink1URL: http://www.altera.com/products/devices/flex10k/f10-index.html; ComponentLink2Description: Datasheet; ComponentLink2URL: http://www.altera.com/literature/ds/dsf10ke.pdf
footprint FBGA484 (BGA, 484-Leads, Body 23x23mm, Pitch 1mm)
3D model EPF10K100E-FBGA484 (484-Ball FineLine Ball Grid Array (FBGA484) - Flip Chip)
part A pins: A7 I/O (io), A9 I/O (io), A10 I/O (io), A11 I/O (io), A12 I/O (io), A14 I/O (io), A15 I/O (io), A16 I/O (io), A17 I/O (io), A18 I/O (io), A19 I/O (io), A20 I/O (io), A21 I/O (io), B6 I/O (io), B7 I/O (io), B8 I/O (io), B9 I/O (io), B11 I/O (io), B12 I/O (io), B13 I/O (io), B14 I/O (io), B15 I/O (io), B16 I/O (io), B18 I/O (io), B19 I/O (io), B20 I/O (io), C1 I/O (io), C3 I/O (io), C4 I/O (io), C5 I/O (io), C6 I/O (io), C7 I/O (io), C8 I/O (io), C9 I/O (io), C10 I/O (io), C12 I/O (io), C13 I/O (io), C14 I/O (io), C16 I/O (io), C18 I/O (io), C19 I/O (io), C20 I/O (io), C22 I/O (io), D1 I/O (io), D2 I/O (io), D3 I/O (io), D6 I/O (io), D8 I/O (io), D9 I/O (io), D10 I/O (io), D11 I/O (io), D13 I/O (io), D14 I/O (io), D15 I/O (io), D16 I/O (io), D17 I/O (io), D20 I/O (io), D21 I/O (io), D22 I/O (io), E2 I/O (io), E3 I/O (io), E9 I/O (io), E10 I/O (io), E11 I/O (io), E13 I/O (io), E14 I/O (io), E15 I/O (io), E16 I/O (io), E20 I/O (io), E22 I/O (io), F1 I/O (io), F3 I/O (io), F4 I/O (io), F7 I/O (io), F8 I/O (io), F9 I/O (io), F10 I/O (io), F11 I/O (io), F13 I/O (io), F14 I/O (io), F15 I/O (io), F16 I/O (io), F20 I/O (io), F21 I/O (io), F22 I/O (io), G2 I/O (io), G4 I/O (io), G5 I/O (io), G6 I/O (io), G8 I/O (io), G9 I/O (io), G10 I/O (io), G12 I/O (io), G13 I/O (io), G14 I/O (io), G16 I/O (io), G17 I/O (io), G19 I/O (io), G20 I/O (io), G22 I/O (io), H1 I/O (io), H3 I/O (io), H4 I/O (io), H5 I/O (io), H6 I/O (io), H7 I/O (io), H10 I/O (io), H12 I/O (io), H13 I/O (io), H16 I/O (io), H17 I/O (io), H18 I/O (io), H19 I/O (io), H21 I/O (io), H22 I/O (io), J1 I/O (io), J3 I/O (io), J4 I/O (io), J5 I/O (io), J6 I/O (io), J7 I/O (io), J16 I/O (io), J17 I/O (io), J18 I/O (io), J19 I/O (io), J21 I/O (io), J22 I/O (io), K1 I/O (io), K4 I/O (io), K5 I/O (io), K6 I/O (io), K7 I/O (io), K8 I/O (io), K15 I/O (io), K16 I/O (io), K18 I/O (io), K21 I/O (io), K22 I/O (io), L1 I/O (io), L3 I/O (io), L4 I/O (io), L5 I/O (io), L6 I/O (io), L7 I/O (io), L8 I/O (io), L15 I/O (io), L16 I/O (io), L17 I/O (io), L18 I/O (io), L19 I/O (io), L20 I/O (io), L21 I/O (io), L22 I/O (io), M1 I/O (io), M2 I/O (io), M3 I/O (io), M4 I/O (io), M5 I/O (io), M6 I/O (io), M7 I/O (io)
part B pins: AA2 I/O (io), AA3 I/O (io), AA4 I/O (io), AA5 I/O (io), AA7 I/O (io), AA8 I/O (io), AA9 I/O (io), AA10 I/O (io), AA11 I/O (io), AA13 I/O (io), AA14 I/O (io), AA16 I/O (io), AA17 I/O (io), AA18 I/O (io), AA19 I/O (io), AA20 I/O (io), AA21 I/O (io), AB1 I/O (io), AB2 I/O (io), AB6 I/O (io), AB8 I/O (io), AB9 I/O (io), AB10 I/O (io), AB12 I/O (io), AB14 I/O (io), AB21 I/O (io), AB22 I/O (io), M8 I/O (io), M15 I/O (io), M16 I/O (io), M17 I/O (io), M18 I/O (io), M19 I/O (io), M21 I/O (io), M22 I/O (io), N2 I/O (io), N4 I/O (io), N5 I/O (io), N6 I/O (io), N7 I/O (io), N8 I/O (io), N15 I/O (io), N16 I/O (io), N17 I/O (io), N18 I/O (io), N19 I/O (io), N21 I/O (io), N22 I/O (io), P1 I/O (io), P2 I/O (io), P3 I/O (io), P4 I/O (io), P5 I/O (io), P6 I/O (io), P7 I/O (io), P16 I/O (io), P17 I/O (io), P18 I/O (io), P19 I/O (io), P21 I/O (io), R2 I/O (io), R4 I/O (io), R5 I/O (io), R6 I/O (io), R7 I/O (io), R10 I/O (io), R11 I/O (io), R13 I/O (io), R16 I/O (io), R17 I/O (io), R18 I/O (io), R19 I/O (io), R20 I/O (io), R21 I/O (io), T2 I/O (io), T4 I/O (io), T5 I/O (io), T6 I/O (io), T8 I/O (io), T9 I/O (io), T10 I/O (io), T11 I/O (io), T12 I/O (io), T13 I/O (io), T14 I/O (io), T16 I/O (io), T17 I/O (io), T18 I/O (io), T19 I/O (io), U2 I/O (io), U3 I/O (io), U5 I/O (io), U6 I/O (io), U7 I/O (io), U8 I/O (io), U9 I/O (io), U10 I/O (io), U11 I/O (io), U12 I/O (io), U13 I/O (io), U14 I/O (io), U15 LOCK (io), U16 I/O (io), U17 I/O (io), U19 I/O (io), U20 I/O (io), U21 I/O (io), U22 I/O (io), V1 I/O (io), V2 I/O (io), V6 I/O (io), V7 I/O (io), V8 I/O (io), V9 I/O (io), V10 I/O (io), V12 I/O (io), V13 I/O (io), V14 I/O (io), V15 I/O (io), V16 I/O (io), V17 I/O (io), V18 I/O (io), V20 I/O (io), V21 I/O (io), W1 I/O (io), W2 I/O (io), W3 I/O (io), W4 I/O (io), W5 I/O (io), W6 I/O (io), W7 I/O (io), W8 I/O (io), W9 I/O (io), W10 I/O (io), W12 I/O (io), W13 I/O (io), W14 I/O (io), W15 I/O (io), W16 I/O (io), W17 I/O (io), W18 I/O (io), Y4 I/O (io), Y5 I/O (io), Y6 I/O (io), Y7 I/O (io), Y9 I/O (io), Y10 I/O (io), Y11 I/O (io), Y12 I/O (io), Y13 I/O (io), Y14 I/O (io), Y15 I/O (io), Y17 I/O (io), Y18 I/O (io), Y19 I/O (io), Y20 I/O (io)
part C pins: D4 DATA0 (in), D5 DATA2 (io), D7 DATA5 (io), D12 CLK (in), D18 CS (io), D19 nCS (io), E4 nCE (in), E5 DCLK (in), E6 DATA1 (io), E7 DATA4 (io), E8 DATA7 (io), E12 INPUT (in), E17 nWS (io), E18 TCK (in), E19 nCEO (out), F5 TDI (in), F6 DATA3 (io), F12 DEV_OE (io), F17 nRS (io), F18 CONF_DONE (in), F19 TDO (out), G7 DATA6 (io), G11 DEV_CLRn (io), G18 CLKUSR (io), H11 INPUT (in), K17 RDYnBSY (io), K19 INIT_DONE (io), P11 CLK/GCLK1 (in), R12 INPUT (in), T7 nCONFIG (in), U4 MSEL0 (in), U18 TMS (in), V4 MSEL1 (in), V11 INPUT (in), V19 TRST (in), W19 nSTATUS (in)
part D pins: A1 GNDINT (power), A6 VCCIO (power), A8 GNDINT (power), A13 VCCIO (power), A22 GNDINT (power), AA1 GNDINT (power), AA6 GNDINT (power), AA12 VCCINT (power), AA22 GNDINT (power), AB11 GNDINT (power), AB13 VCCIO (power), AB16 GNDINT (power), B1 GNDINT (power), B2 GNDINT (power), B5 VCCIO (power), B17 GNDINT (power), B21 GNDINT (power), B22 GNDINT (power), C2 GNDINT (power), C11 VCCINT (power), C15 VCCINT (power), C21 GNDINT (power), E1 VCCIO (power), E21 GNDINT (power), G1 VCCIO (power), G3 GNDINT (power), G15 VCCIO (power), G21 GNDINT (power), H2 GNDINT (power), H8 GNDINT (power), H9 VCCIO (power), H14 VCCINT (power), H15 GNDINT (power), H20 VCCIO (power), J8 VCCINT (power), J9 GNDINT (power), J10 VCCINT (power), J11 VCCIO (power), J12 VCCINT (power), J13 VCCIO (power), J14 GNDINT (power), J15 VCCINT (power), J20 GNDINT (power), K3 GNDINT (power), K9 VCCIO (power), K10 GNDINT (power), K11 VCCIO (power), K12 GNDINT (power), K13 GNDINT (power), K14 VCCIO (power), K20 VCCIO (power), L9 VCCINT (power), L10 VCCINT (power), L11 GNDINT (power), L12 GNDINT (power), L13 VCCINT (power), L14 VCCIO (power), M9 VCCIO (power), M10 VCCINT (power), M11 GNDINT (power), M12 GNDINT (power), M13 VCCINT (power), M14 VCCINT (power), M20 GNDINT (power), N3 VCCIO (power), N9 VCCIO (power), N10 GNDINT (power), N11 VCCIO (power), N12 VCCINT (power), N13 GNDINT (power), N14 VCCIO (power), N20 VCCIO (power), P8 VCCINT (power), P9 GNDINT (power), P10 VCCINT (power), P12 VCC_CKLK (power), P13 VCCIO (power), P14 GNDINT (power), P15 VCCINT (power), R1 VCCIO (power), R8 GNDINT (power), R9 VCCIO (power), R14 VCCINT (power), R15 GNDINT (power), R22 GNDINT (power), T1 GNDINT (power), T3 VCCIO (power), T15 VCCIO (power), T22 VCCIO (power), V3 GNDINT (power), V5 VCCINT (power), V22 VCCIO (power), W11 GND_CKLK (power), W20 GNDINT (power), W21 VCCINT (power), Y1 GNDINT (power), Y2 GNDINT (power), Y3 GNDINT (power), Y8 VCCINT (power), Y21 GNDINT (power), Y22 GNDINT (power)
part E pins: A2 NC, A3 NC, A4 NC, A5 NC, AA15 NC, AB3 NC, AB4 NC, AB5 NC, AB7 NC, AB15 NC, AB17 NC, AB18 NC, AB19 NC, AB20 NC, B3 NC, B4 NC, B10 NC, C17 NC, F2 NC, J2 NC, K2 NC, L2 NC, N1 NC, P20 NC, P22 NC, R3 NC, T20 NC, T21 NC, U1 NC, W22 NC, Y16 NC

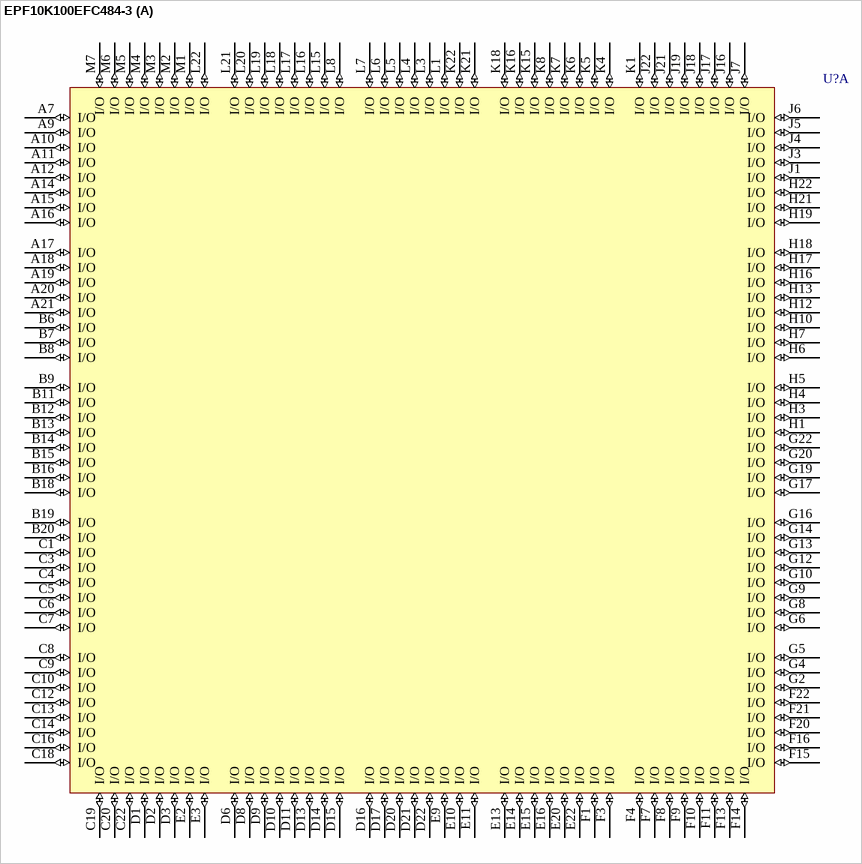
[diagram p238: symbol EPF10K100EFC484-3]

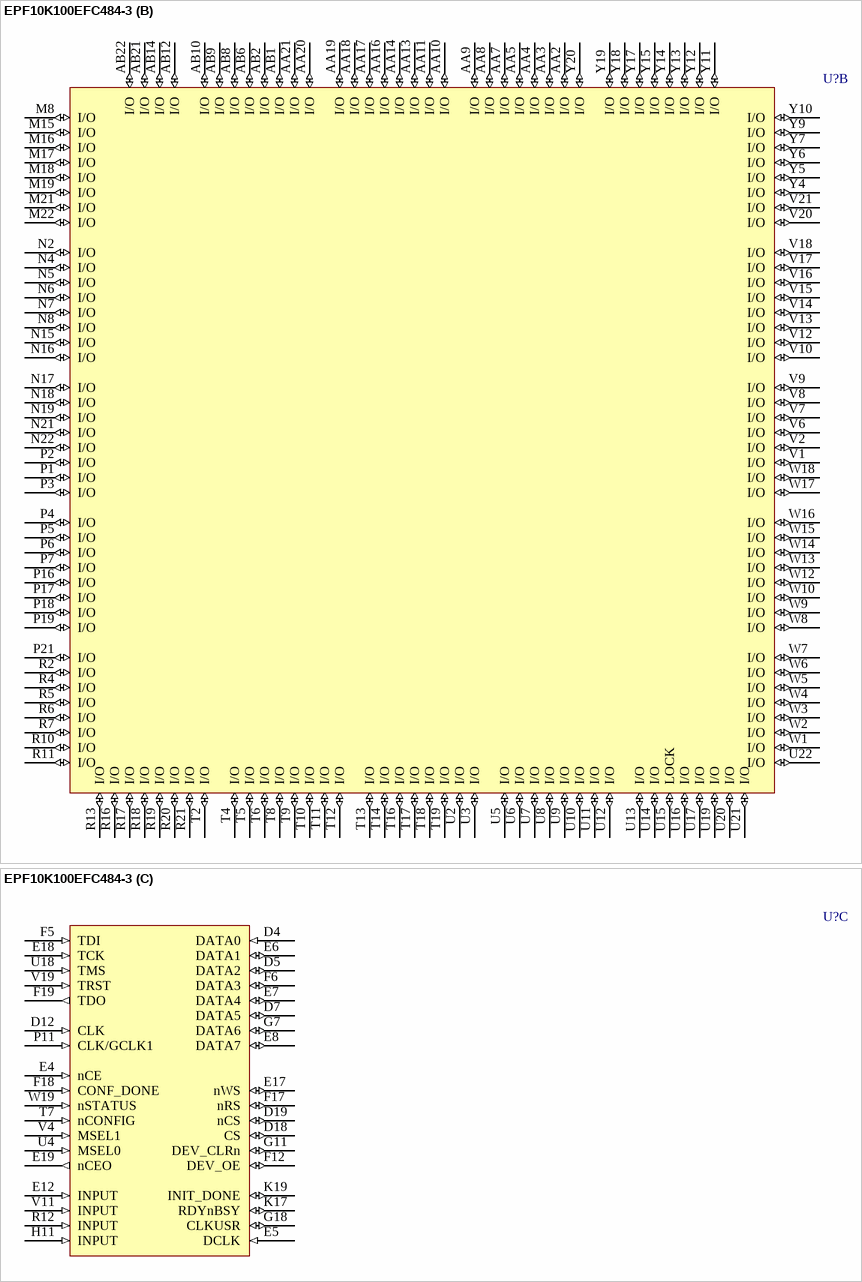
[diagram p239: symbol EPF10K100EFC484-3]

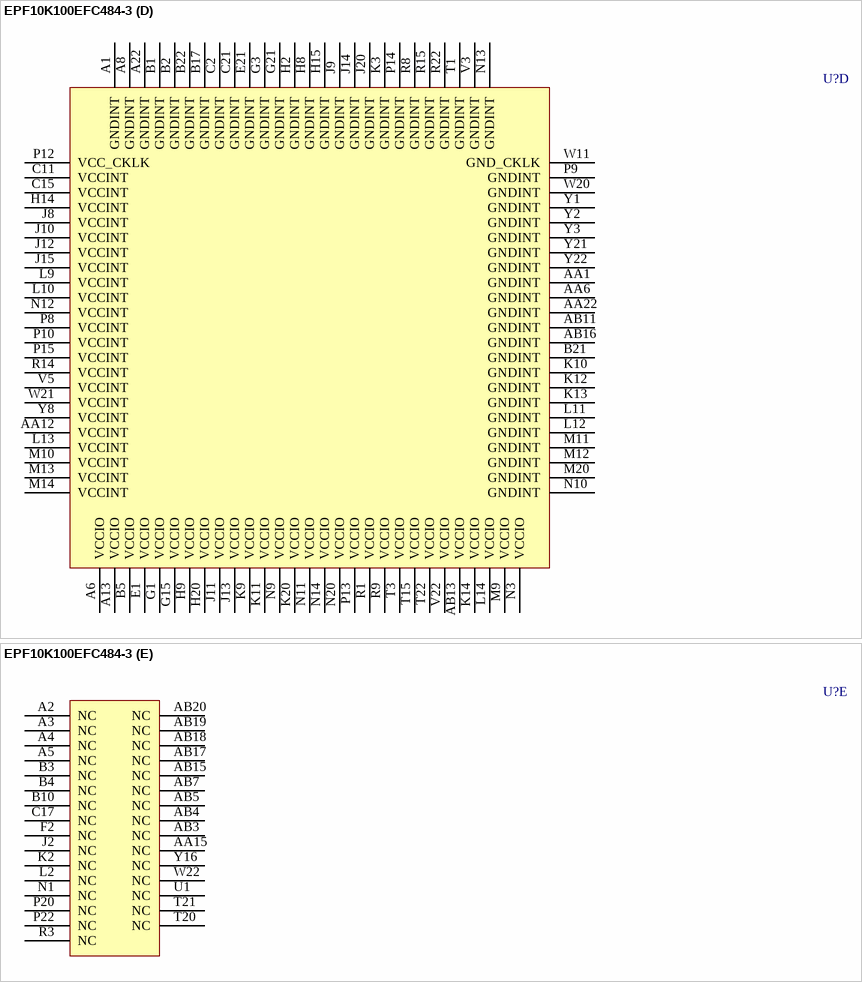
[diagram p240: symbol EPF10K100EFC484-3]

## EPF10K100EFC484-3
designator U?
FLEX EPF10K100E 2.5V Embedded PLD, 338 User IO Pins, 484-Pin FBGA, Speed Grade 3, Commercial Grade; Published: 17-Jul-2002; LatestRevisionDate: 13-Apr-2006; LatestRevisionNote: IPC-7351 Footprint Added.; DatasheetVersion: ver2.5, Jan-2003; PackageVersion: ver16.0, Dec-2009; PackageReference: FBGA484; Publisher: Altium Limited; PackageDescription: 484-Ball FineLine Ball Grid Array (FBGA484) - Flip Chip; Code_JEDEC: MS-034-AAJ-1; Code_IPC: BGA100P22X22-484; ComponentLink1Description: Manufacturer Link; ComponentLink1URL: http://www.altera.com/products/devices/flex10k/f10-index.html; ComponentLink2Description: Datasheet; ComponentLink2URL: http://www.altera.com/literature/ds/dsf10ke.pdf
footprint FBGA484 (BGA, 484-Leads, Body 23x23mm, Pitch 1mm)
3D model EPF10K100E-FBGA484 (484-Ball FineLine Ball Grid Array (FBGA484) - Flip Chip)
part A pins: A7 I/O (io), A9 I/O (io), A10 I/O (io), A11 I/O (io), A12 I/O (io), A14 I/O (io), A15 I/O (io), A16 I/O (io), A17 I/O (io), A18 I/O (io), A19 I/O (io), A20 I/O (io), A21 I/O (io), B6 I/O (io), B7 I/O (io), B8 I/O (io), B9 I/O (io), B11 I/O (io), B12 I/O (io), B13 I/O (io), B14 I/O (io), B15 I/O (io), B16 I/O (io), B18 I/O (io), B19 I/O (io), B20 I/O (io), C1 I/O (io), C3 I/O (io), C4 I/O (io), C5 I/O (io), C6 I/O (io), C7 I/O (io), C8 I/O (io), C9 I/O (io), C10 I/O (io), C12 I/O (io), C13 I/O (io), C14 I/O (io), C16 I/O (io), C18 I/O (io), C19 I/O (io), C20 I/O (io), C22 I/O (io), D1 I/O (io), D2 I/O (io), D3 I/O (io), D6 I/O (io), D8 I/O (io), D9 I/O (io), D10 I/O (io), D11 I/O (io), D13 I/O (io), D14 I/O (io), D15 I/O (io), D16 I/O (io), D17 I/O (io), D20 I/O (io), D21 I/O (io), D22 I/O (io), E2 I/O (io), E3 I/O (io), E9 I/O (io), E10 I/O (io), E11 I/O (io), E13 I/O (io), E14 I/O (io), E15 I/O (io), E16 I/O (io), E20 I/O (io), E22 I/O (io), F1 I/O (io), F3 I/O (io), F4 I/O (io), F7 I/O (io), F8 I/O (io), F9 I/O (io), F10 I/O (io), F11 I/O (io), F13 I/O (io), F14 I/O (io), F15 I/O (io), F16 I/O (io), F20 I/O (io), F21 I/O (io), F22 I/O (io), G2 I/O (io), G4 I/O (io), G5 I/O (io), G6 I/O (io), G8 I/O (io), G9 I/O (io), G10 I/O (io), G12 I/O (io), G13 I/O (io), G14 I/O (io), G16 I/O (io), G17 I/O (io), G19 I/O (io), G20 I/O (io), G22 I/O (io), H1 I/O (io), H3 I/O (io), H4 I/O (io), H5 I/O (io), H6 I/O (io), H7 I/O (io), H10 I/O (io), H12 I/O (io), H13 I/O (io), H16 I/O (io), H17 I/O (io), H18 I/O (io), H19 I/O (io), H21 I/O (io), H22 I/O (io), J1 I/O (io), J3 I/O (io), J4 I/O (io), J5 I/O (io), J6 I/O (io), J7 I/O (io), J16 I/O (io), J17 I/O (io), J18 I/O (io), J19 I/O (io), J21 I/O (io), J22 I/O (io), K1 I/O (io), K4 I/O (io), K5 I/O (io), K6 I/O (io), K7 I/O (io), K8 I/O (io), K15 I/O (io), K16 I/O (io), K18 I/O (io), K21 I/O (io), K22 I/O (io), L1 I/O (io), L3 I/O (io), L4 I/O (io), L5 I/O (io), L6 I/O (io), L7 I/O (io), L8 I/O (io), L15 I/O (io), L16 I/O (io), L17 I/O (io), L18 I/O (io), L19 I/O (io), L20 I/O (io), L21 I/O (io), L22 I/O (io), M1 I/O (io), M2 I/O (io), M3 I/O (io), M4 I/O (io), M5 I/O (io), M6 I/O (io), M7 I/O (io)
part B pins: AA2 I/O (io), AA3 I/O (io), AA4 I/O (io), AA5 I/O (io), AA7 I/O (io), AA8 I/O (io), AA9 I/O (io), AA10 I/O (io), AA11 I/O (io), AA13 I/O (io), AA14 I/O (io), AA16 I/O (io), AA17 I/O (io), AA18 I/O (io), AA19 I/O (io), AA20 I/O (io), AA21 I/O (io), AB1 I/O (io), AB2 I/O (io), AB6 I/O (io), AB8 I/O (io), AB9 I/O (io), AB10 I/O (io), AB12 I/O (io), AB14 I/O (io), AB21 I/O (io), AB22 I/O (io), M8 I/O (io), M15 I/O (io), M16 I/O (io), M17 I/O (io), M18 I/O (io), M19 I/O (io), M21 I/O (io), M22 I/O (io), N2 I/O (io), N4 I/O (io), N5 I/O (io), N6 I/O (io), N7 I/O (io), N8 I/O (io), N15 I/O (io), N16 I/O (io), N17 I/O (io), N18 I/O (io), N19 I/O (io), N21 I/O (io), N22 I/O (io), P1 I/O (io), P2 I/O (io), P3 I/O (io), P4 I/O (io), P5 I/O (io), P6 I/O (io), P7 I/O (io), P16 I/O (io), P17 I/O (io), P18 I/O (io), P19 I/O (io), P21 I/O (io), R2 I/O (io), R4 I/O (io), R5 I/O (io), R6 I/O (io), R7 I/O (io), R10 I/O (io), R11 I/O (io), R13 I/O (io), R16 I/O (io), R17 I/O (io), R18 I/O (io), R19 I/O (io), R20 I/O (io), R21 I/O (io), T2 I/O (io), T4 I/O (io), T5 I/O (io), T6 I/O (io), T8 I/O (io), T9 I/O (io), T10 I/O (io), T11 I/O (io), T12 I/O (io), T13 I/O (io), T14 I/O (io), T16 I/O (io), T17 I/O (io), T18 I/O (io), T19 I/O (io), U2 I/O (io), U3 I/O (io), U5 I/O (io), U6 I/O (io), U7 I/O (io), U8 I/O (io), U9 I/O (io), U10 I/O (io), U11 I/O (io), U12 I/O (io), U13 I/O (io), U14 I/O (io), U15 LOCK (io), U16 I/O (io), U17 I/O (io), U19 I/O (io), U20 I/O (io), U21 I/O (io), U22 I/O (io), V1 I/O (io), V2 I/O (io), V6 I/O (io), V7 I/O (io), V8 I/O (io), V9 I/O (io), V10 I/O (io), V12 I/O (io), V13 I/O (io), V14 I/O (io), V15 I/O (io), V16 I/O (io), V17 I/O (io), V18 I/O (io), V20 I/O (io), V21 I/O (io), W1 I/O (io), W2 I/O (io), W3 I/O (io), W4 I/O (io), W5 I/O (io), W6 I/O (io), W7 I/O (io), W8 I/O (io), W9 I/O (io), W10 I/O (io), W12 I/O (io), W13 I/O (io), W14 I/O (io), W15 I/O (io), W16 I/O (io), W17 I/O (io), W18 I/O (io), Y4 I/O (io), Y5 I/O (io), Y6 I/O (io), Y7 I/O (io), Y9 I/O (io), Y10 I/O (io), Y11 I/O (io), Y12 I/O (io), Y13 I/O (io), Y14 I/O (io), Y15 I/O (io), Y17 I/O (io), Y18 I/O (io), Y19 I/O (io), Y20 I/O (io)
part C pins: D4 DATA0 (in), D5 DATA2 (io), D7 DATA5 (io), D12 CLK (in), D18 CS (io), D19 nCS (io), E4 nCE (in), E5 DCLK (in), E6 DATA1 (io), E7 DATA4 (io), E8 DATA7 (io), E12 INPUT (in), E17 nWS (io), E18 TCK (in), E19 nCEO (out), F5 TDI (in), F6 DATA3 (io), F12 DEV_OE (io), F17 nRS (io), F18 CONF_DONE (in), F19 TDO (out), G7 DATA6 (io), G11 DEV_CLRn (io), G18 CLKUSR (io), H11 INPUT (in), K17 RDYnBSY (io), K19 INIT_DONE (io), P11 CLK/GCLK1 (in), R12 INPUT (in), T7 nCONFIG (in), U4 MSEL0 (in), U18 TMS (in), V4 MSEL1 (in), V11 INPUT (in), V19 TRST (in), W19 nSTATUS (in)
part D pins: A1 GNDINT (power), A6 VCCIO (power), A8 GNDINT (power), A13 VCCIO (power), A22 GNDINT (power), AA1 GNDINT (power), AA6 GNDINT (power), AA12 VCCINT (power), AA22 GNDINT (power), AB11 GNDINT (power), AB13 VCCIO (power), AB16 GNDINT (power), B1 GNDINT (power), B2 GNDINT (power), B5 VCCIO (power), B17 GNDINT (power), B21 GNDINT (power), B22 GNDINT (power), C2 GNDINT (power), C11 VCCINT (power), C15 VCCINT (power), C21 GNDINT (power), E1 VCCIO (power), E21 GNDINT (power), G1 VCCIO (power), G3 GNDINT (power), G15 VCCIO (power), G21 GNDINT (power), H2 GNDINT (power), H8 GNDINT (power), H9 VCCIO (power), H14 VCCINT (power), H15 GNDINT (power), H20 VCCIO (power), J8 VCCINT (power), J9 GNDINT (power), J10 VCCINT (power), J11 VCCIO (power), J12 VCCINT (power), J13 VCCIO (power), J14 GNDINT (power), J15 VCCINT (power), J20 GNDINT (power), K3 GNDINT (power), K9 VCCIO (power), K10 GNDINT (power), K11 VCCIO (power), K12 GNDINT (power), K13 GNDINT (power), K14 VCCIO (power), K20 VCCIO (power), L9 VCCINT (power), L10 VCCINT (power), L11 GNDINT (power), L12 GNDINT (power), L13 VCCINT (power), L14 VCCIO (power), M9 VCCIO (power), M10 VCCINT (power), M11 GNDINT (power), M12 GNDINT (power), M13 VCCINT (power), M14 VCCINT (power), M20 GNDINT (power), N3 VCCIO (power), N9 VCCIO (power), N10 GNDINT (power), N11 VCCIO (power), N12 VCCINT (power), N13 GNDINT (power), N14 VCCIO (power), N20 VCCIO (power), P8 VCCINT (power), P9 GNDINT (power), P10 VCCINT (power), P12 VCC_CKLK (power), P13 VCCIO (power), P14 GNDINT (power), P15 VCCINT (power), R1 VCCIO (power), R8 GNDINT (power), R9 VCCIO (power), R14 VCCINT (power), R15 GNDINT (power), R22 GNDINT (power), T1 GNDINT (power), T3 VCCIO (power), T15 VCCIO (power), T22 VCCIO (power), V3 GNDINT (power), V5 VCCINT (power), V22 VCCIO (power), W11 GND_CKLK (power), W20 GNDINT (power), W21 VCCINT (power), Y1 GNDINT (power), Y2 GNDINT (power), Y3 GNDINT (power), Y8 VCCINT (power), Y21 GNDINT (power), Y22 GNDINT (power)
part E pins: A2 NC, A3 NC, A4 NC, A5 NC, AA15 NC, AB3 NC, AB4 NC, AB5 NC, AB7 NC, AB15 NC, AB17 NC, AB18 NC, AB19 NC, AB20 NC, B3 NC, B4 NC, B10 NC, C17 NC, F2 NC, J2 NC, K2 NC, L2 NC, N1 NC, P20 NC, P22 NC, R3 NC, T20 NC, T21 NC, U1 NC, W22 NC, Y16 NC

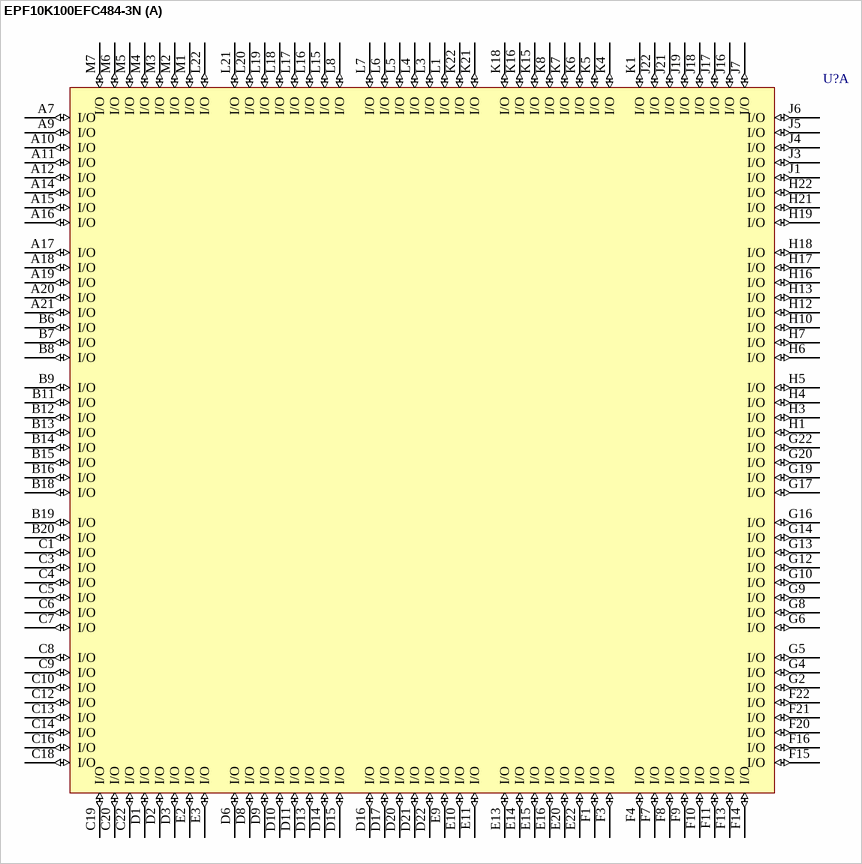
[diagram p241: symbol EPF10K100EFC484-3N]

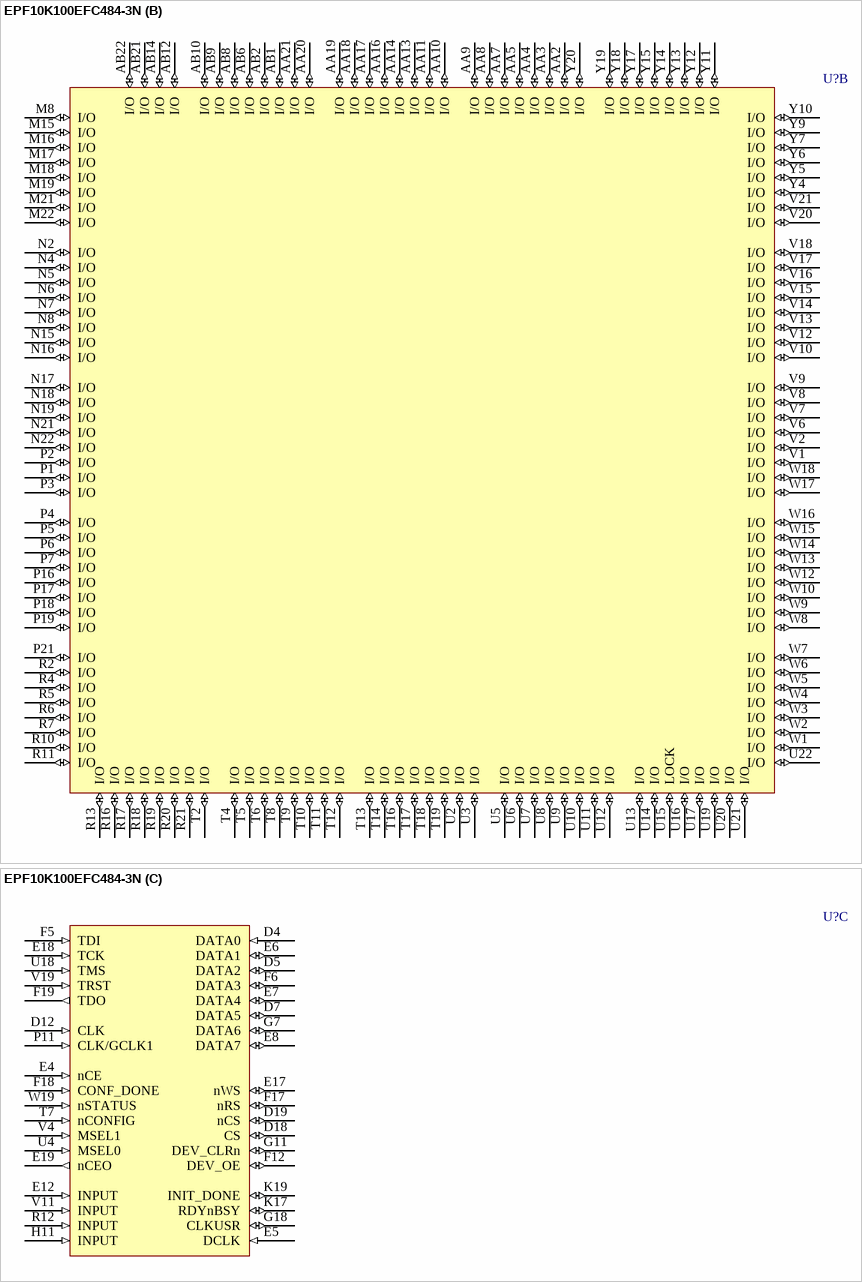
[diagram p242: symbol EPF10K100EFC484-3N]

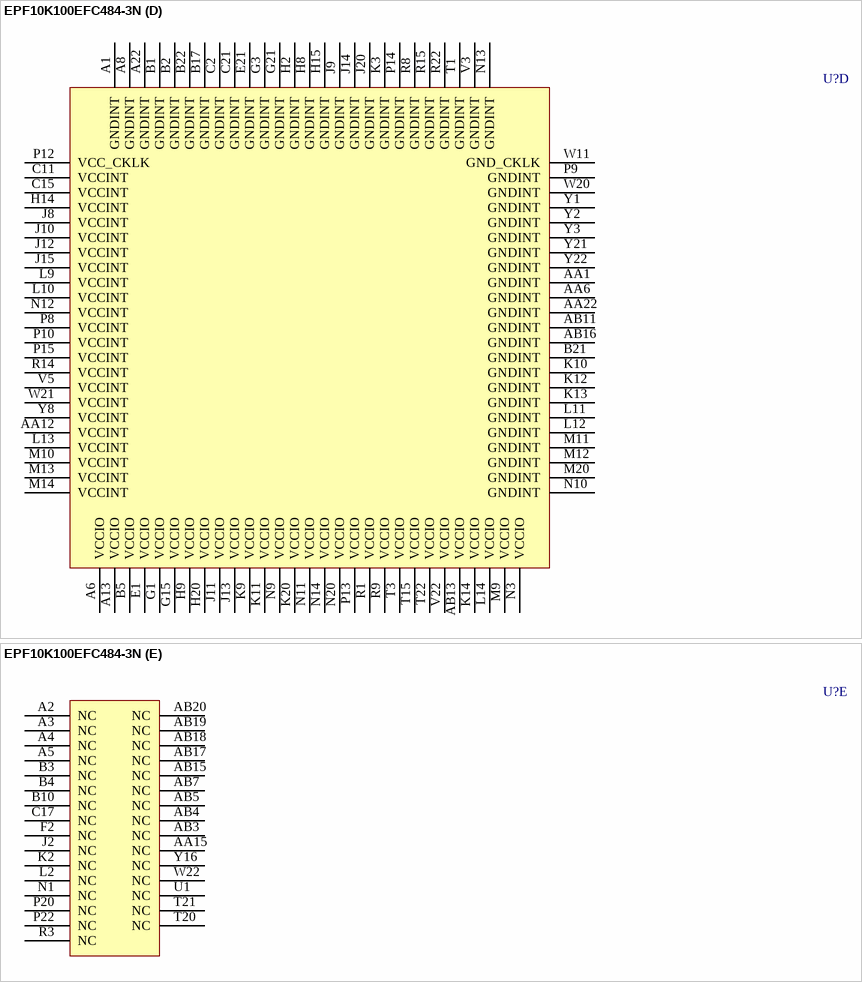
[diagram p243: symbol EPF10K100EFC484-3N]

## EPF10K100EFC484-3N
designator U?
FLEX EPF10K100E 2.5V Embedded PLD, 338 User IO Pins, 484-Pin FBGA, Speed Grade 3, Commercial Grade, Pb-Free; Published: 4-Mar-2005; LatestRevisionDate: 13-Apr-2006; LatestRevisionNote: IPC-7351 Footprint Added.; DatasheetVersion: Jan-2001; PackageVersion: ver16.0, Dec-2009; PackageReference: FBGA484; Publisher: Altium Limited; PackageDescription: 484-Ball FineLine Ball Grid Array (FBGA484) - Flip Chip; Code_JEDEC: MS-034-AAJ-1; Code_IPC: BGA100P22X22-484; ComponentLink1Description: Manufacturer Link; ComponentLink1URL: http://www.altera.com/products/devices/flex10k/f10-index.html; ComponentLink2Description: Datasheet; ComponentLink2URL: http://www.altera.com/literature/ds/dsf10ke.pdf
footprint FBGA484 (BGA, 484-Leads, Body 23x23mm, Pitch 1mm)
3D model EPF10K100E-FBGA484 (484-Ball FineLine Ball Grid Array (FBGA484) - Flip Chip)
part A pins: A7 I/O (io), A9 I/O (io), A10 I/O (io), A11 I/O (io), A12 I/O (io), A14 I/O (io), A15 I/O (io), A16 I/O (io), A17 I/O (io), A18 I/O (io), A19 I/O (io), A20 I/O (io), A21 I/O (io), B6 I/O (io), B7 I/O (io), B8 I/O (io), B9 I/O (io), B11 I/O (io), B12 I/O (io), B13 I/O (io), B14 I/O (io), B15 I/O (io), B16 I/O (io), B18 I/O (io), B19 I/O (io), B20 I/O (io), C1 I/O (io), C3 I/O (io), C4 I/O (io), C5 I/O (io), C6 I/O (io), C7 I/O (io), C8 I/O (io), C9 I/O (io), C10 I/O (io), C12 I/O (io), C13 I/O (io), C14 I/O (io), C16 I/O (io), C18 I/O (io), C19 I/O (io), C20 I/O (io), C22 I/O (io), D1 I/O (io), D2 I/O (io), D3 I/O (io), D6 I/O (io), D8 I/O (io), D9 I/O (io), D10 I/O (io), D11 I/O (io), D13 I/O (io), D14 I/O (io), D15 I/O (io), D16 I/O (io), D17 I/O (io), D20 I/O (io), D21 I/O (io), D22 I/O (io), E2 I/O (io), E3 I/O (io), E9 I/O (io), E10 I/O (io), E11 I/O (io), E13 I/O (io), E14 I/O (io), E15 I/O (io), E16 I/O (io), E20 I/O (io), E22 I/O (io), F1 I/O (io), F3 I/O (io), F4 I/O (io), F7 I/O (io), F8 I/O (io), F9 I/O (io), F10 I/O (io), F11 I/O (io), F13 I/O (io), F14 I/O (io), F15 I/O (io), F16 I/O (io), F20 I/O (io), F21 I/O (io), F22 I/O (io), G2 I/O (io), G4 I/O (io), G5 I/O (io), G6 I/O (io), G8 I/O (io), G9 I/O (io), G10 I/O (io), G12 I/O (io), G13 I/O (io), G14 I/O (io), G16 I/O (io), G17 I/O (io), G19 I/O (io), G20 I/O (io), G22 I/O (io), H1 I/O (io), H3 I/O (io), H4 I/O (io), H5 I/O (io), H6 I/O (io), H7 I/O (io), H10 I/O (io), H12 I/O (io), H13 I/O (io), H16 I/O (io), H17 I/O (io), H18 I/O (io), H19 I/O (io), H21 I/O (io), H22 I/O (io), J1 I/O (io), J3 I/O (io), J4 I/O (io), J5 I/O (io), J6 I/O (io), J7 I/O (io), J16 I/O (io), J17 I/O (io), J18 I/O (io), J19 I/O (io), J21 I/O (io), J22 I/O (io), K1 I/O (io), K4 I/O (io), K5 I/O (io), K6 I/O (io), K7 I/O (io), K8 I/O (io), K15 I/O (io), K16 I/O (io), K18 I/O (io), K21 I/O (io), K22 I/O (io), L1 I/O (io), L3 I/O (io), L4 I/O (io), L5 I/O (io), L6 I/O (io), L7 I/O (io), L8 I/O (io), L15 I/O (io), L16 I/O (io), L17 I/O (io), L18 I/O (io), L19 I/O (io), L20 I/O (io), L21 I/O (io), L22 I/O (io), M1 I/O (io), M2 I/O (io), M3 I/O (io), M4 I/O (io), M5 I/O (io), M6 I/O (io), M7 I/O (io)
part B pins: AA2 I/O (io), AA3 I/O (io), AA4 I/O (io), AA5 I/O (io), AA7 I/O (io), AA8 I/O (io), AA9 I/O (io), AA10 I/O (io), AA11 I/O (io), AA13 I/O (io), AA14 I/O (io), AA16 I/O (io), AA17 I/O (io), AA18 I/O (io), AA19 I/O (io), AA20 I/O (io), AA21 I/O (io), AB1 I/O (io), AB2 I/O (io), AB6 I/O (io), AB8 I/O (io), AB9 I/O (io), AB10 I/O (io), AB12 I/O (io), AB14 I/O (io), AB21 I/O (io), AB22 I/O (io), M8 I/O (io), M15 I/O (io), M16 I/O (io), M17 I/O (io), M18 I/O (io), M19 I/O (io), M21 I/O (io), M22 I/O (io), N2 I/O (io), N4 I/O (io), N5 I/O (io), N6 I/O (io), N7 I/O (io), N8 I/O (io), N15 I/O (io), N16 I/O (io), N17 I/O (io), N18 I/O (io), N19 I/O (io), N21 I/O (io), N22 I/O (io), P1 I/O (io), P2 I/O (io), P3 I/O (io), P4 I/O (io), P5 I/O (io), P6 I/O (io), P7 I/O (io), P16 I/O (io), P17 I/O (io), P18 I/O (io), P19 I/O (io), P21 I/O (io), R2 I/O (io), R4 I/O (io), R5 I/O (io), R6 I/O (io), R7 I/O (io), R10 I/O (io), R11 I/O (io), R13 I/O (io), R16 I/O (io), R17 I/O (io), R18 I/O (io), R19 I/O (io), R20 I/O (io), R21 I/O (io), T2 I/O (io), T4 I/O (io), T5 I/O (io), T6 I/O (io), T8 I/O (io), T9 I/O (io), T10 I/O (io), T11 I/O (io), T12 I/O (io), T13 I/O (io), T14 I/O (io), T16 I/O (io), T17 I/O (io), T18 I/O (io), T19 I/O (io), U2 I/O (io), U3 I/O (io), U5 I/O (io), U6 I/O (io), U7 I/O (io), U8 I/O (io), U9 I/O (io), U10 I/O (io), U11 I/O (io), U12 I/O (io), U13 I/O (io), U14 I/O (io), U15 LOCK (io), U16 I/O (io), U17 I/O (io), U19 I/O (io), U20 I/O (io), U21 I/O (io), U22 I/O (io), V1 I/O (io), V2 I/O (io), V6 I/O (io), V7 I/O (io), V8 I/O (io), V9 I/O (io), V10 I/O (io), V12 I/O (io), V13 I/O (io), V14 I/O (io), V15 I/O (io), V16 I/O (io), V17 I/O (io), V18 I/O (io), V20 I/O (io), V21 I/O (io), W1 I/O (io), W2 I/O (io), W3 I/O (io), W4 I/O (io), W5 I/O (io), W6 I/O (io), W7 I/O (io), W8 I/O (io), W9 I/O (io), W10 I/O (io), W12 I/O (io), W13 I/O (io), W14 I/O (io), W15 I/O (io), W16 I/O (io), W17 I/O (io), W18 I/O (io), Y4 I/O (io), Y5 I/O (io), Y6 I/O (io), Y7 I/O (io), Y9 I/O (io), Y10 I/O (io), Y11 I/O (io), Y12 I/O (io), Y13 I/O (io), Y14 I/O (io), Y15 I/O (io), Y17 I/O (io), Y18 I/O (io), Y19 I/O (io), Y20 I/O (io)
part C pins: D4 DATA0 (in), D5 DATA2 (io), D7 DATA5 (io), D12 CLK (in), D18 CS (io), D19 nCS (io), E4 nCE (in), E5 DCLK (in), E6 DATA1 (io), E7 DATA4 (io), E8 DATA7 (io), E12 INPUT (in), E17 nWS (io), E18 TCK (in), E19 nCEO (out), F5 TDI (in), F6 DATA3 (io), F12 DEV_OE (io), F17 nRS (io), F18 CONF_DONE (in), F19 TDO (out), G7 DATA6 (io), G11 DEV_CLRn (io), G18 CLKUSR (io), H11 INPUT (in), K17 RDYnBSY (io), K19 INIT_DONE (io), P11 CLK/GCLK1 (in), R12 INPUT (in), T7 nCONFIG (in), U4 MSEL0 (in), U18 TMS (in), V4 MSEL1 (in), V11 INPUT (in), V19 TRST (in), W19 nSTATUS (in)
part D pins: A1 GNDINT (power), A6 VCCIO (power), A8 GNDINT (power), A13 VCCIO (power), A22 GNDINT (power), AA1 GNDINT (power), AA6 GNDINT (power), AA12 VCCINT (power), AA22 GNDINT (power), AB11 GNDINT (power), AB13 VCCIO (power), AB16 GNDINT (power), B1 GNDINT (power), B2 GNDINT (power), B5 VCCIO (power), B17 GNDINT (power), B21 GNDINT (power), B22 GNDINT (power), C2 GNDINT (power), C11 VCCINT (power), C15 VCCINT (power), C21 GNDINT (power), E1 VCCIO (power), E21 GNDINT (power), G1 VCCIO (power), G3 GNDINT (power), G15 VCCIO (power), G21 GNDINT (power), H2 GNDINT (power), H8 GNDINT (power), H9 VCCIO (power), H14 VCCINT (power), H15 GNDINT (power), H20 VCCIO (power), J8 VCCINT (power), J9 GNDINT (power), J10 VCCINT (power), J11 VCCIO (power), J12 VCCINT (power), J13 VCCIO (power), J14 GNDINT (power), J15 VCCINT (power), J20 GNDINT (power), K3 GNDINT (power), K9 VCCIO (power), K10 GNDINT (power), K11 VCCIO (power), K12 GNDINT (power), K13 GNDINT (power), K14 VCCIO (power), K20 VCCIO (power), L9 VCCINT (power), L10 VCCINT (power), L11 GNDINT (power), L12 GNDINT (power), L13 VCCINT (power), L14 VCCIO (power), M9 VCCIO (power), M10 VCCINT (power), M11 GNDINT (power), M12 GNDINT (power), M13 VCCINT (power), M14 VCCINT (power), M20 GNDINT (power), N3 VCCIO (power), N9 VCCIO (power), N10 GNDINT (power), N11 VCCIO (power), N12 VCCINT (power), N13 GNDINT (power), N14 VCCIO (power), N20 VCCIO (power), P8 VCCINT (power), P9 GNDINT (power), P10 VCCINT (power), P12 VCC_CKLK (power), P13 VCCIO (power), P14 GNDINT (power), P15 VCCINT (power), R1 VCCIO (power), R8 GNDINT (power), R9 VCCIO (power), R14 VCCINT (power), R15 GNDINT (power), R22 GNDINT (power), T1 GNDINT (power), T3 VCCIO (power), T15 VCCIO (power), T22 VCCIO (power), V3 GNDINT (power), V5 VCCINT (power), V22 VCCIO (power), W11 GND_CKLK (power), W20 GNDINT (power), W21 VCCINT (power), Y1 GNDINT (power), Y2 GNDINT (power), Y3 GNDINT (power), Y8 VCCINT (power), Y21 GNDINT (power), Y22 GNDINT (power)
part E pins: A2 NC, A3 NC, A4 NC, A5 NC, AA15 NC, AB3 NC, AB4 NC, AB5 NC, AB7 NC, AB15 NC, AB17 NC, AB18 NC, AB19 NC, AB20 NC, B3 NC, B4 NC, B10 NC, C17 NC, F2 NC, J2 NC, K2 NC, L2 NC, N1 NC, P20 NC, P22 NC, R3 NC, T20 NC, T21 NC, U1 NC, W22 NC, Y16 NC

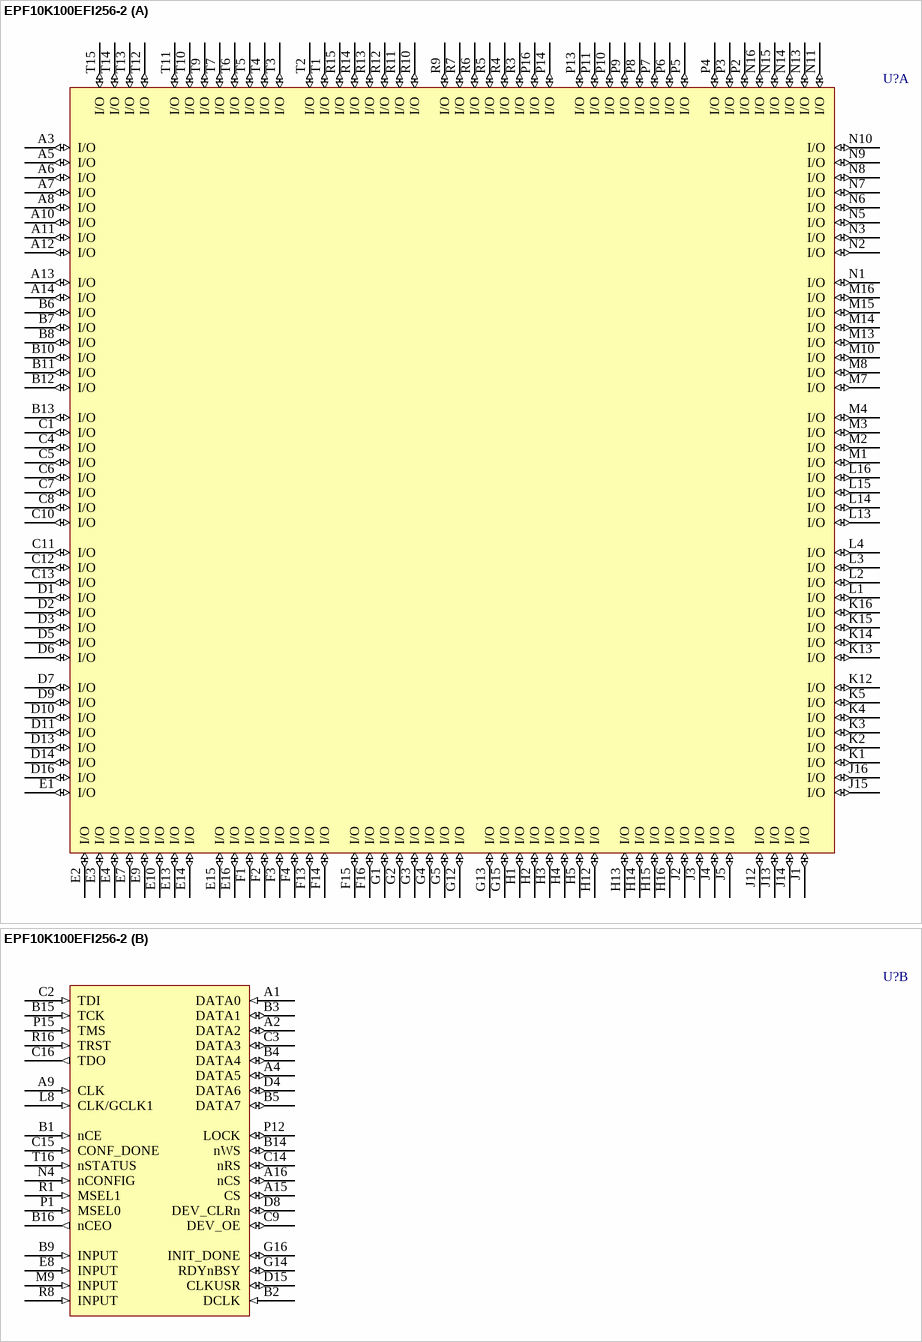
[diagram p244: symbol EPF10K100EFI256-2]

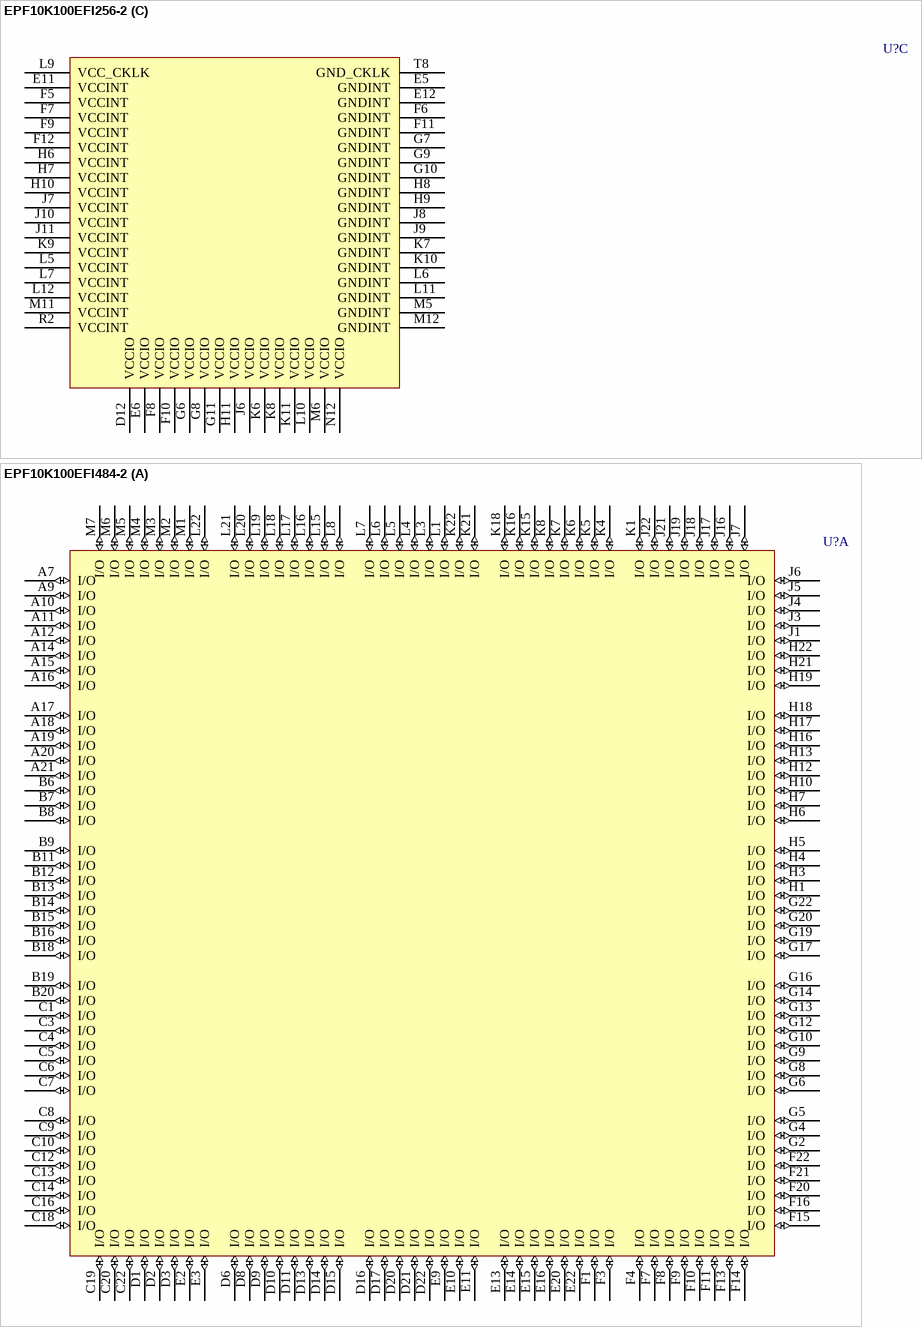
[diagram p245: symbols EPF10K100EFI256-2 to EPF10K100EFI484-2]